# Altium integrated library Renesas Microcontroller H8S.IntLib: 670 symbols (part 19 of 70)
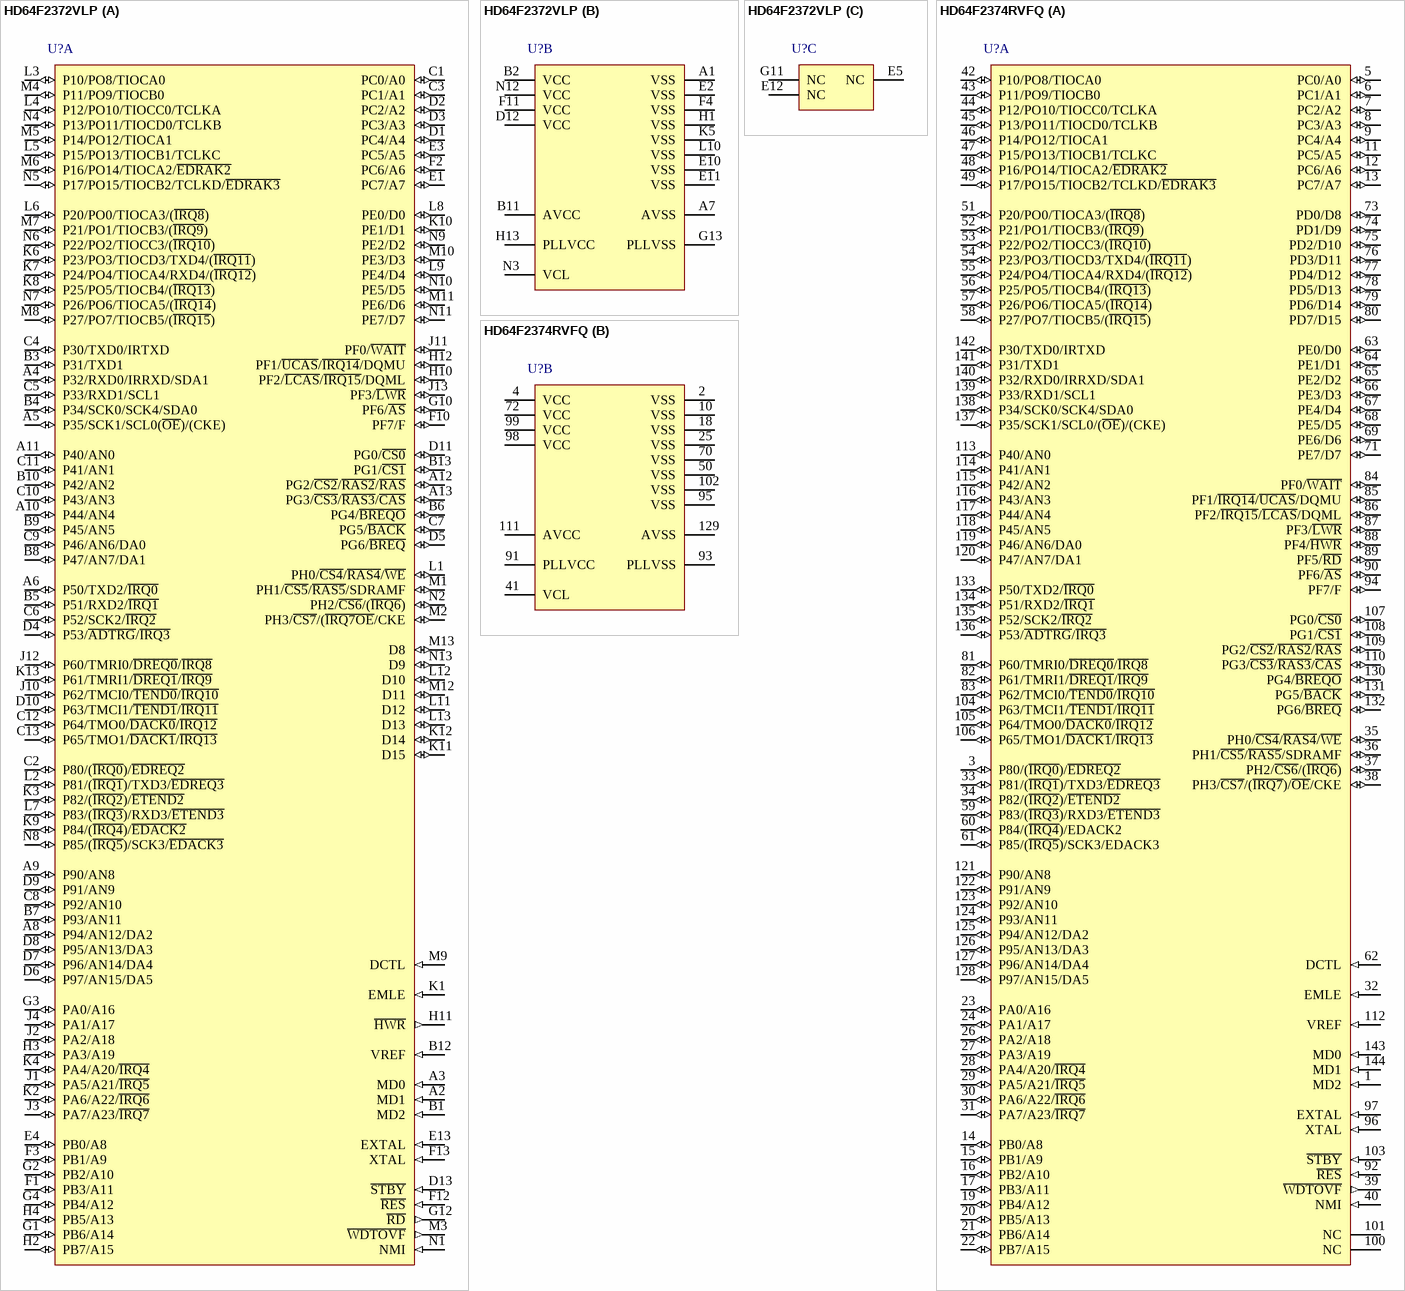
[diagram p254: symbols HD64F2372VLP to HD64F2374RVFQ]

## HD64F2372VLP
designator U?
Flash memory H8S/2300 Series, 2378 Group MCU, 256K ROM, 32K RAM, TLP-145V Pkg; Published: 28-Aug-2009; DatasheetVersion: Rev.7.00, Mar-2009; PackageVersion: Jun-2006; PackageReference: PTLG0145JB-A; Publisher: Altium Limited; PackageDescription: 145-Ball Plastic Thin Fine-Pitch BGA, 9 x 9 mm Body, 0.65 mm Pitch; Code_JEITA: P-TFLGA145-9x9-0.65; ComponentLink1Description: Manufacturer Link; ComponentLink1URL: http://sg.renesas.com/fmwk.jsp?cnt=h8s_family_landing.jsp&fp=/products/mpumcu/h8s_family/; ComponentLink2Description: Datasheet; ComponentLink2URL: http://documentation.renesas.com/eng/products/mpumcu/rej09b0109_h8s2378.pdf; ComponentLink3Description: Packaging Specification; ComponentLink3URL: http://sg.renesas.com/media/products/common_info/package/pdf/ic/code/ptlg0145jb_a.pdf
footprint PTLG0145JB-A (BGA, 145-Leads, Body 9x9mm, Pitch 0.65mm)
part A pins: A2 MD1 (in), A3 MD0 (in), A4 P32/RXD0/IRRXD/SDA1 (io), A5 P35/SCK1/SCL0(~{OE})/(CKE) (io), A6 P50/TXD2/~{IRQ0} (io), A8 P94/AN12/DA2 (io), A9 P90/AN8 (io), A10 P44/AN4 (io), A11 P40/AN0 (io), A12 PG2/~{CS2}/~{RAS2}/~{RAS} (io), A13 PG3/~{CS3}/~{RAS3}/~{CAS} (io), B1 MD2 (in), B3 P31/TXD1 (io), B4 P34/SCK0/SCK4/SDA0 (io), B5 P51/RXD2/~{IRQ1} (io), B6 PG4/~{BREQO} (io), B7 P93/AN11 (io), B8 P47/AN7/DA1 (io), B9 P45/AN5 (io), B10 P42/AN2 (io), B12 VREF (in), B13 PG1/~{CS1} (io), C1 PC0/A0 (io), C2 P80/(~{IRQ0})/~{EDREQ2} (io), C3 PC1/A1 (io), C4 P30/TXD0/IRTXD (io), C5 P33/RXD1/SCL1 (io), C6 P52/SCK2/~{IRQ2} (io), C7 PG5/~{BACK} (io), C8 P92/AN10 (io), C9 P46/AN6/DA0 (io), C10 P43/AN3 (io), C11 P41/AN1 (io), C12 P64/TMO0/~{DACK0}/~{IRQ12} (io), C13 P65/TMO1/~{DACK1}/~{IRQ13} (io), D1 PC4/A4 (io), D2 PC2/A2 (io), D3 PC3/A3 (io), D4 P53/~{ADTRG}/~{IRQ3} (io), D5 PG6/~{BREQ} (io), D6 P97/AN15/DA5 (io), D7 P96/AN14/DA4 (io), D8 P95/AN13/DA3 (io), D9 P91/AN9 (io), D10 P63/TMCI1/~{TEND1}/~{IRQ11} (io), D11 PG0/~{CS0} (io), D13 ~{STBY} (in), E1 PC7/A7 (io), E3 PC5/A5 (io), E4 PB0/A8 (io), E13 EXTAL (in), F1 PB3/A11 (io), F2 PC6/A6 (io), F3 PB1/A9 (io), F10 PF7/F (io), F12 ~{RES} (in), F13 XTAL (in), G1 PB6/A14 (io), G2 PB2/A10 (io), G3 PA0/A16 (io), G4 PB4/A12 (io), G10 PF6/~{AS} (io), G12 ~{RD} (out), H2 PB7/A15 (io), H3 PA3/A19 (io), H4 PB5/A13 (io), H10 PF2/~{LCAS}/~{IRQ15}/DQML (io), H11 ~{HWR} (out), H12 PF1/~{UCAS}/~{IRQ14}/DQMU (io), J1 PA5/A21/~{IRQ5} (io), J2 PA2/A18 (io), J3 PA7/A23/~{IRQ7} (io), J4 PA1/A17 (io), J10 P62/TMCI0/~{TEND0}/~{IRQ10} (io), J11 PF0/~{WAIT} (io), J12 P60/TMRI0/~{DREQ0}/~{IRQ8} (io), J13 PF3/~{LWR} (io), K1 EMLE (in), K2 PA6/A22/~{IRQ6} (io), K3 P82/(~{IRQ2})/~{ETEND2} (io), K4 PA4/A20/~{IRQ4} (io), K6 P23/PO3/TIOCD3/TXD4/(~{IRQ11}) (io), K7 P24/PO4/TIOCA4/RXD4/(~{IRQ12}) (io), K8 P25/PO5/TIOCB4/(~{IRQ13}) (io), K9 P84/(~{IRQ4})/~{EDACK2} (io), K10 PE1/D1 (io), K11 D15 (io), K12 D14 (io), K13 P61/TMRI1/~{DREQ1}/~{IRQ9} (io), L1 PH0/~{CS4}/~{RAS4}/~{WE} (io), L2 P81/(~{IRQ1})/TXD3/~{EDREQ3} (io), L3 P10/PO8/TIOCA0 (io), L4 P12/PO10/TIOCC0/TCLKA (io), L5 P15/PO13/TIOCB1/TCLKC (io), L6 P20/PO0/TIOCA3/(~{IRQ8}) (io), L7 P83/(~{IRQ3})/RXD3/~{ETEND3} (io), L8 PE0/D0 (io), L9 PE4/D4 (io), L11 D12 (io), L12 D10 (io), L13 D13 (io), M1 PH1/~{CS5}/~{RAS5}/SDRAMF (io), M2 PH3/~{CS7}/(~{IRQ7OE}/CKE (io), M3 ~{WDTOVF} (out), M4 P11/PO9/TIOCB0 (io), M5 P14/PO12/TIOCA1 (io), M6 P16/PO14/TIOCA2/~{EDRAK2} (io), M7 P21/PO1/TIOCB3/(~{IRQ9}) (io), M8 P27/PO7/TIOCB5/(~{IRQ15}) (io), M9 DCTL (in), M10 PE3/D3 (io), M11 PE6/D6 (io), M12 D11 (io), M13 D8 (io), N1 NMI (in), N2 PH2/~{CS6}/(~{IRQ6}) (io), N4 P13/PO11/TIOCD0/TCLKB (io), N5 P17/PO15/TIOCB2/TCLKD/~{EDRAK3} (io), N6 P22/PO2/TIOCC3/(~{IRQ10}) (io), N7 P26/PO6/TIOCA5/(~{IRQ14}) (io), N8 P85/(~{IRQ5})/SCK3/~{EDACK3} (io), N9 PE2/D2 (io), N10 PE5/D5 (io), N11 PE7/D7 (io), N13 D9 (io)
part B pins: A1 VSS (power), A7 AVSS (power), B2 VCC (power), B11 AVCC (power), D12 VCC (power), E2 VSS (power), E10 VSS (power), E11 VSS (power), F4 VSS (power), F11 VCC (power), G13 PLLVSS (power), H1 VSS (power), H13 PLLVCC (power), K5 VSS (power), L10 VSS (power), N3 VCL, N12 VCC (power)
part C pins: E5 NC, E12 NC, G11 NC

## HD64F2374RVFQ
designator U?
Flash memory H8S/2300 Series, 2378R Group MCU, 384K ROM, 32K RAM, FP-144H Pkg; Published: 28-Aug-2009; DatasheetVersion: Rev.7.00, Mar-2009; PackageVersion: Sep-2005; PackageReference: PLQP0144KC-A; Publisher: Altium Limited; PackageDescription: 144-Pin Plastic Low Profile QFP, 20 x 20 x 1.45 mm Body, 0.5 mm Pitch; Code_JEITA: P-LQFP144-20x20-0.50; Code_IPC: SQFP50P2200X2200-144; ComponentLink1Description: Manufacturer Link; ComponentLink1URL: http://sg.renesas.com/fmwk.jsp?cnt=h8s_family_landing.jsp&fp=/products/mpumcu/h8s_family/; ComponentLink2Description: Datasheet; ComponentLink2URL: http://documentation.renesas.com/eng/products/mpumcu/rej09b0109_h8s2378.pdf; ComponentLink3Description: Packaging Specification; ComponentLink3URL: http://sg.renesas.com/media/products/common_info/package/pdf/ic/code/plqp0144kc_a.pdf
footprint PLQP0144KC-A_N (Shrink QFP, 144-Leads, Body 20x20mm, Pitch 0.5mm, IPC Medium Density)
footprint PLQP0144KC-A_L (Shrink QFP, 144-Leads, Body 20x20mm, Pitch 0.5mm, IPC High Density)
footprint PLQP0144KC-A_M (Shrink QFP, 144-Leads, Body 20x20mm, Pitch 0.5mm, IPC Low Density)
part A pins: 1 MD2 (in), 3 P80/(~{IRQ0})/~{EDREQ2} (io), 5 PC0/A0 (io), 6 PC1/A1 (io), 7 PC2/A2 (io), 8 PC3/A3 (io), 9 PC4/A4 (io), 11 PC5/A5 (io), 12 PC6/A6 (io), 13 PC7/A7 (io), 14 PB0/A8 (io), 15 PB1/A9 (io), 16 PB2/A10 (io), 17 PB3/A11 (io), 19 PB4/A12 (io), 20 PB5/A13 (io), 21 PB6/A14 (io), 22 PB7/A15 (io), 23 PA0/A16 (io), 24 PA1/A17 (io), 26 PA2/A18 (io), 27 PA3/A19 (io), 28 PA4/A20/~{IRQ4} (io), 29 PA5/A21/~{IRQ5} (io), 30 PA6/A22/~{IRQ6} (io), 31 PA7/A23/~{IRQ7} (io), 32 EMLE (in), 33 P81/(~{IRQ1})/TXD3/~{EDREQ3} (io), 34 P82/(~{IRQ2})/~{ETEND2} (io), 35 PH0/~{CS4}/~{RAS4}/~{WE} (io), 36 PH1/~{CS5}/~{RAS5}/SDRAMF (io), 37 PH2/~{CS6}/(~{IRQ6}) (io), 38 PH3/~{CS7}/(~{IRQ7})/~{OE}/CKE (io), 39 ~{WDTOVF} (out), 40 NMI (in), 42 P10/PO8/TIOCA0 (io), 43 P11/PO9/TIOCB0 (io), 44 P12/PO10/TIOCC0/TCLKA (io), 45 P13/PO11/TIOCD0/TCLKB (io), 46 P14/PO12/TIOCA1 (io), 47 P15/PO13/TIOCB1/TCLKC (io), 48 P16/PO14/TIOCA2/~{EDRAK2} (io), 49 P17/PO15/TIOCB2/TCLKD/~{EDRAK3} (io), 51 P20/PO0/TIOCA3/(~{IRQ8}) (io), 52 P21/PO1/TIOCB3/(~{IRQ9}) (io), 53 P22/PO2/TIOCC3/(~{IRQ10}) (io), 54 P23/PO3/TIOCD3/TXD4/(~{IRQ11}) (io), 55 P24/PO4/TIOCA4/RXD4/(~{IRQ12}) (io), 56 P25/PO5/TIOCB4/(~{IRQ13}) (io), 57 P26/PO6/TIOCA5/(~{IRQ14}) (io), 58 P27/PO7/TIOCB5/(~{IRQ15}) (io), 59 P83/(~{IRQ3})/RXD3/~{ETEND3} (io), 60 P84/(~{IRQ4})/EDACK2 (io), 61 P85/(~{IRQ5})/SCK3/EDACK3 (io), 62 DCTL (in), 63 PE0/D0 (io), 64 PE1/D1 (io), 65 PE2/D2 (io), 66 PE3/D3 (io), 67 PE4/D4 (io), 68 PE5/D5 (io), 69 PE6/D6 (io), 71 PE7/D7 (io), 73 PD0/D8 (io), 74 PD1/D9 (io), 75 PD2/D10 (io), 76 PD3/D11 (io), 77 PD4/D12 (io), 78 PD5/D13 (io), 79 PD6/D14 (io), 80 PD7/D15 (io), 81 P60/TMRI0/~{DREQ0}/~{IRQ8} (io), 82 P61/TMRI1/~{DREQ1}/~{IRQ9} (io), 83 P62/TMCI0/~{TEND0}/~{IRQ10} (io), 84 PF0/~{WAIT} (io), 85 PF1/~{IRQ14}/~{UCAS}/DQMU (io), 86 PF2/~{IRQ15}/~{LCAS}/DQML (io), 87 PF3/~{LWR} (io), 88 PF4/~{HWR} (io), 89 PF5/~{RD} (io), 90 PF6/~{AS} (io), 92 ~{RES} (in), 94 PF7/F (io), 96 XTAL (in), 97 EXTAL (in), 100 NC, 101 NC, 103 ~{STBY} (in), 104 P63/TMCI1/~{TEND1}/~{IRQ11} (io), 105 P64/TMO0/~{DACK0}/~{IRQ12} (io), 106 P65/TMO1/~{DACK1}/~{IRQ13} (io), 107 PG0/~{CS0} (io), 108 PG1/~{CS1} (io), 109 PG2/~{CS2}/~{RAS2}/~{RAS} (io), 110 PG3/~{CS3}/~{RAS3}/~{CAS} (io), 112 VREF (in), 113 P40/AN0 (io), 114 P41/AN1 (io), 115 P42/AN2 (io), 116 P43/AN3 (io), 117 P44/AN4 (io), 118 P45/AN5 (io), 119 P46/AN6/DA0 (io), 120 P47/AN7/DA1 (io), 121 P90/AN8 (io), 122 P91/AN9 (io), 123 P92/AN10 (io), 124 P93/AN11 (io), 125 P94/AN12/DA2 (io), 126 P95/AN13/DA3 (io), 127 P96/AN14/DA4 (io), 128 P97/AN15/DA5 (io), 130 PG4/~{BREQO} (io), 131 PG5/~{BACK} (io), 132 PG6/~{BREQ} (io), 133 P50/TXD2/~{IRQ0} (io), 134 P51/RXD2/~{IRQ1} (io), 135 P52/SCK2/~{IRQ2} (io), 136 P53/~{ADTRG}/~{IRQ3} (io), 137 P35/SCK1/SCL0/(~{OE})/(CKE) (io), 138 P34/SCK0/SCK4/SDA0 (io), 139 P33/RXD1/SCL1 (io), 140 P32/RXD0/IRRXD/SDA1 (io), 141 P31/TXD1 (io), 142 P30/TXD0/IRTXD (io), 143 MD0 (in), 144 MD1 (in)
part B pins: 2 VSS (power), 4 VCC (power), 10 VSS (power), 18 VSS (power), 25 VSS (power), 41 VCL, 50 VSS (power), 70 VSS (power), 72 VCC (power), 91 PLLVCC (power), 93 PLLVSS (power), 95 VSS (power), 98 VCC (power), 99 VCC (power), 102 VSS (power), 111 AVCC (power), 129 AVSS (power)

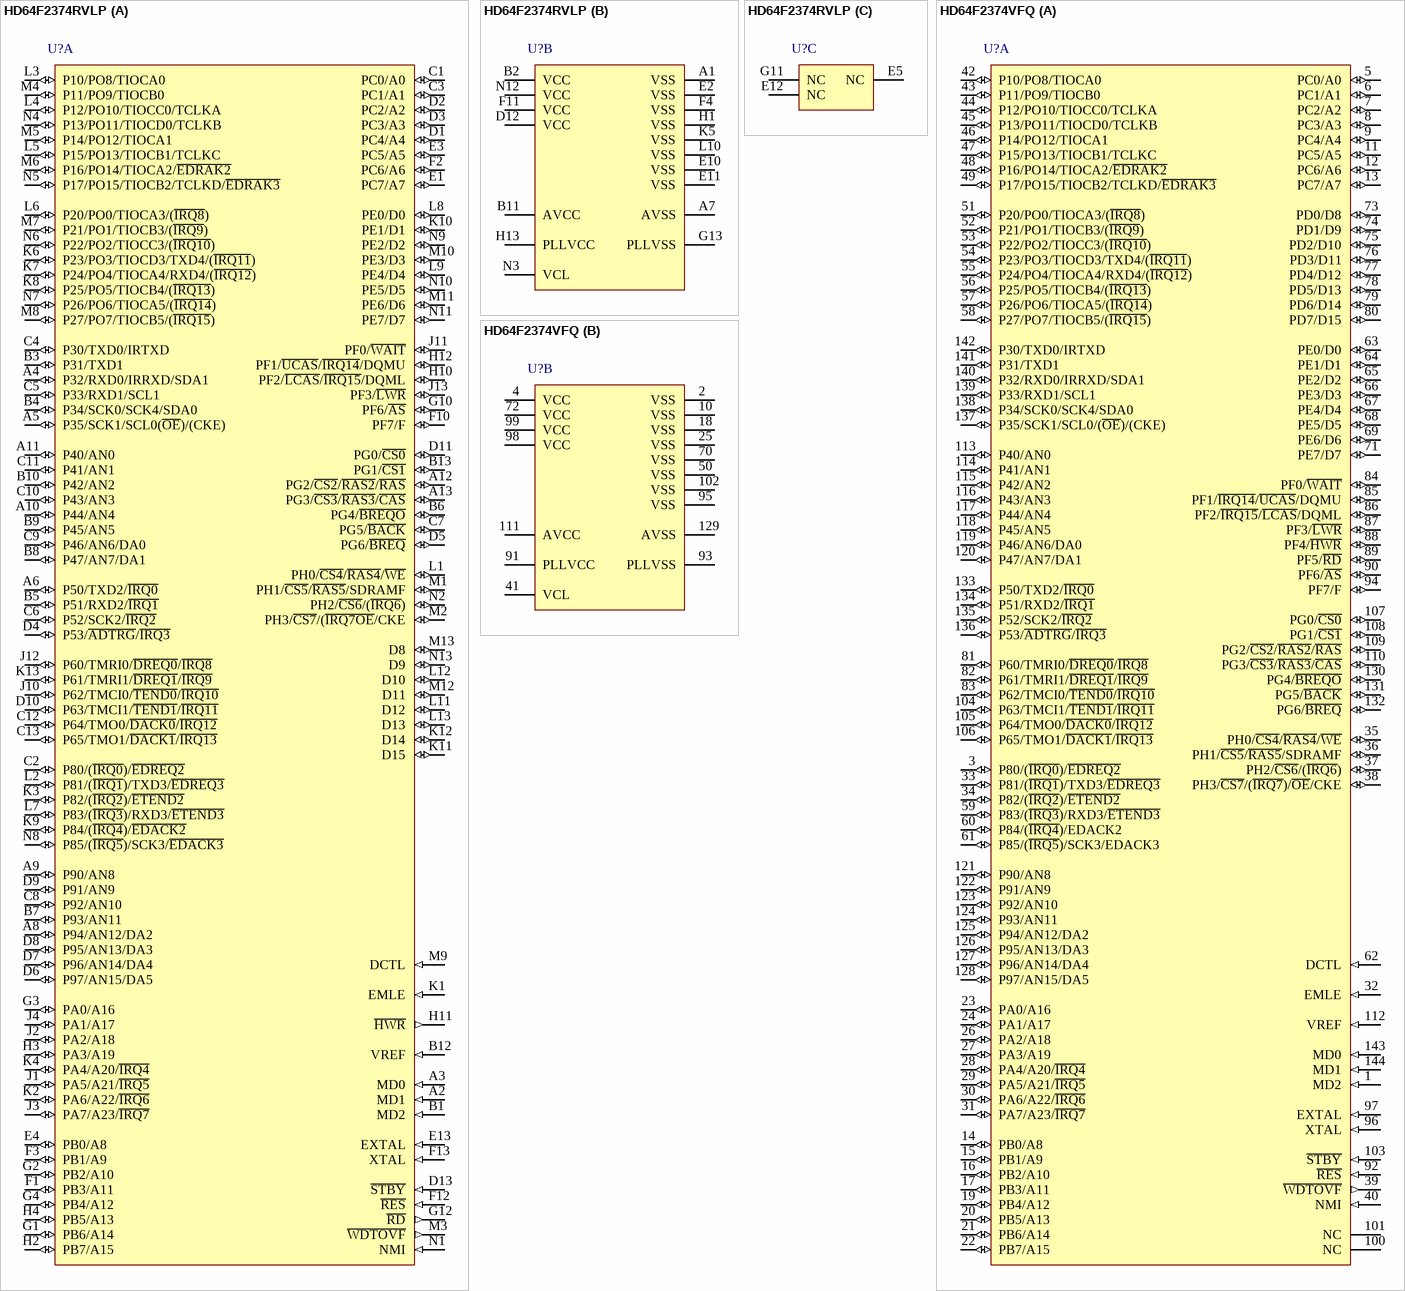
[diagram p65: symbols HD64F2374RVLP to HD64F2374VFQ]

## HD64F2374RVLP
designator U?
Flash memory H8S/2300 Series, 2378R Group MCU, 384K ROM, 32K RAM, TLP-145V Pkg; Published: 28-Aug-2009; DatasheetVersion: Rev.7.00, Mar-2009; PackageVersion: Jun-2006; PackageReference: PTLG0145JB-A; Publisher: Altium Limited; PackageDescription: 145-Ball Plastic Thin Fine-Pitch BGA, 9 x 9 mm Body, 0.65 mm Pitch; Code_JEITA: P-TFLGA145-9x9-0.65; ComponentLink1Description: Manufacturer Link; ComponentLink1URL: http://sg.renesas.com/fmwk.jsp?cnt=h8s_family_landing.jsp&fp=/products/mpumcu/h8s_family/; ComponentLink2Description: Datasheet; ComponentLink2URL: http://documentation.renesas.com/eng/products/mpumcu/rej09b0109_h8s2378.pdf; ComponentLink3Description: Packaging Specification; ComponentLink3URL: http://sg.renesas.com/media/products/common_info/package/pdf/ic/code/ptlg0145jb_a.pdf
footprint PTLG0145JB-A (BGA, 145-Leads, Body 9x9mm, Pitch 0.65mm)
part A pins: A2 MD1 (in), A3 MD0 (in), A4 P32/RXD0/IRRXD/SDA1 (io), A5 P35/SCK1/SCL0(~{OE})/(CKE) (io), A6 P50/TXD2/~{IRQ0} (io), A8 P94/AN12/DA2 (io), A9 P90/AN8 (io), A10 P44/AN4 (io), A11 P40/AN0 (io), A12 PG2/~{CS2}/~{RAS2}/~{RAS} (io), A13 PG3/~{CS3}/~{RAS3}/~{CAS} (io), B1 MD2 (in), B3 P31/TXD1 (io), B4 P34/SCK0/SCK4/SDA0 (io), B5 P51/RXD2/~{IRQ1} (io), B6 PG4/~{BREQO} (io), B7 P93/AN11 (io), B8 P47/AN7/DA1 (io), B9 P45/AN5 (io), B10 P42/AN2 (io), B12 VREF (in), B13 PG1/~{CS1} (io), C1 PC0/A0 (io), C2 P80/(~{IRQ0})/~{EDREQ2} (io), C3 PC1/A1 (io), C4 P30/TXD0/IRTXD (io), C5 P33/RXD1/SCL1 (io), C6 P52/SCK2/~{IRQ2} (io), C7 PG5/~{BACK} (io), C8 P92/AN10 (io), C9 P46/AN6/DA0 (io), C10 P43/AN3 (io), C11 P41/AN1 (io), C12 P64/TMO0/~{DACK0}/~{IRQ12} (io), C13 P65/TMO1/~{DACK1}/~{IRQ13} (io), D1 PC4/A4 (io), D2 PC2/A2 (io), D3 PC3/A3 (io), D4 P53/~{ADTRG}/~{IRQ3} (io), D5 PG6/~{BREQ} (io), D6 P97/AN15/DA5 (io), D7 P96/AN14/DA4 (io), D8 P95/AN13/DA3 (io), D9 P91/AN9 (io), D10 P63/TMCI1/~{TEND1}/~{IRQ11} (io), D11 PG0/~{CS0} (io), D13 ~{STBY} (in), E1 PC7/A7 (io), E3 PC5/A5 (io), E4 PB0/A8 (io), E13 EXTAL (in), F1 PB3/A11 (io), F2 PC6/A6 (io), F3 PB1/A9 (io), F10 PF7/F (io), F12 ~{RES} (in), F13 XTAL (in), G1 PB6/A14 (io), G2 PB2/A10 (io), G3 PA0/A16 (io), G4 PB4/A12 (io), G10 PF6/~{AS} (io), G12 ~{RD} (out), H2 PB7/A15 (io), H3 PA3/A19 (io), H4 PB5/A13 (io), H10 PF2/~{LCAS}/~{IRQ15}/DQML (io), H11 ~{HWR} (out), H12 PF1/~{UCAS}/~{IRQ14}/DQMU (io), J1 PA5/A21/~{IRQ5} (io), J2 PA2/A18 (io), J3 PA7/A23/~{IRQ7} (io), J4 PA1/A17 (io), J10 P62/TMCI0/~{TEND0}/~{IRQ10} (io), J11 PF0/~{WAIT} (io), J12 P60/TMRI0/~{DREQ0}/~{IRQ8} (io), J13 PF3/~{LWR} (io), K1 EMLE (in), K2 PA6/A22/~{IRQ6} (io), K3 P82/(~{IRQ2})/~{ETEND2} (io), K4 PA4/A20/~{IRQ4} (io), K6 P23/PO3/TIOCD3/TXD4/(~{IRQ11}) (io), K7 P24/PO4/TIOCA4/RXD4/(~{IRQ12}) (io), K8 P25/PO5/TIOCB4/(~{IRQ13}) (io), K9 P84/(~{IRQ4})/~{EDACK2} (io), K10 PE1/D1 (io), K11 D15 (io), K12 D14 (io), K13 P61/TMRI1/~{DREQ1}/~{IRQ9} (io), L1 PH0/~{CS4}/~{RAS4}/~{WE} (io), L2 P81/(~{IRQ1})/TXD3/~{EDREQ3} (io), L3 P10/PO8/TIOCA0 (io), L4 P12/PO10/TIOCC0/TCLKA (io), L5 P15/PO13/TIOCB1/TCLKC (io), L6 P20/PO0/TIOCA3/(~{IRQ8}) (io), L7 P83/(~{IRQ3})/RXD3/~{ETEND3} (io), L8 PE0/D0 (io), L9 PE4/D4 (io), L11 D12 (io), L12 D10 (io), L13 D13 (io), M1 PH1/~{CS5}/~{RAS5}/SDRAMF (io), M2 PH3/~{CS7}/(~{IRQ7OE}/CKE (io), M3 ~{WDTOVF} (out), M4 P11/PO9/TIOCB0 (io), M5 P14/PO12/TIOCA1 (io), M6 P16/PO14/TIOCA2/~{EDRAK2} (io), M7 P21/PO1/TIOCB3/(~{IRQ9}) (io), M8 P27/PO7/TIOCB5/(~{IRQ15}) (io), M9 DCTL (in), M10 PE3/D3 (io), M11 PE6/D6 (io), M12 D11 (io), M13 D8 (io), N1 NMI (in), N2 PH2/~{CS6}/(~{IRQ6}) (io), N4 P13/PO11/TIOCD0/TCLKB (io), N5 P17/PO15/TIOCB2/TCLKD/~{EDRAK3} (io), N6 P22/PO2/TIOCC3/(~{IRQ10}) (io), N7 P26/PO6/TIOCA5/(~{IRQ14}) (io), N8 P85/(~{IRQ5})/SCK3/~{EDACK3} (io), N9 PE2/D2 (io), N10 PE5/D5 (io), N11 PE7/D7 (io), N13 D9 (io)
part B pins: A1 VSS (power), A7 AVSS (power), B2 VCC (power), B11 AVCC (power), D12 VCC (power), E2 VSS (power), E10 VSS (power), E11 VSS (power), F4 VSS (power), F11 VCC (power), G13 PLLVSS (power), H1 VSS (power), H13 PLLVCC (power), K5 VSS (power), L10 VSS (power), N3 VCL, N12 VCC (power)
part C pins: E5 NC, E12 NC, G11 NC

## HD64F2374VFQ
designator U?
Flash memory H8S/2300 Series, 2378 Group MCU, 384K ROM, 32K RAM, FP-144H Pkg; Published: 28-Aug-2009; DatasheetVersion: Rev.7.00, Mar-2009; PackageVersion: Sep-2005; PackageReference: PLQP0144KC-A; Publisher: Altium Limited; PackageDescription: 144-Pin Plastic Low Profile QFP, 20 x 20 x 1.45 mm Body, 0.5 mm Pitch; Code_JEITA: P-LQFP144-20x20-0.50; Code_IPC: SQFP50P2200X2200-144; ComponentLink1Description: Manufacturer Link; ComponentLink1URL: http://sg.renesas.com/fmwk.jsp?cnt=h8s_family_landing.jsp&fp=/products/mpumcu/h8s_family/; ComponentLink2Description: Datasheet; ComponentLink2URL: http://documentation.renesas.com/eng/products/mpumcu/rej09b0109_h8s2378.pdf; ComponentLink3Description: Packaging Specification; ComponentLink3URL: http://sg.renesas.com/media/products/common_info/package/pdf/ic/code/plqp0144kc_a.pdf
footprint PLQP0144KC-A_N (Shrink QFP, 144-Leads, Body 20x20mm, Pitch 0.5mm, IPC Medium Density)
footprint PLQP0144KC-A_L (Shrink QFP, 144-Leads, Body 20x20mm, Pitch 0.5mm, IPC High Density)
footprint PLQP0144KC-A_M (Shrink QFP, 144-Leads, Body 20x20mm, Pitch 0.5mm, IPC Low Density)
part A pins: 1 MD2 (in), 3 P80/(~{IRQ0})/~{EDREQ2} (io), 5 PC0/A0 (io), 6 PC1/A1 (io), 7 PC2/A2 (io), 8 PC3/A3 (io), 9 PC4/A4 (io), 11 PC5/A5 (io), 12 PC6/A6 (io), 13 PC7/A7 (io), 14 PB0/A8 (io), 15 PB1/A9 (io), 16 PB2/A10 (io), 17 PB3/A11 (io), 19 PB4/A12 (io), 20 PB5/A13 (io), 21 PB6/A14 (io), 22 PB7/A15 (io), 23 PA0/A16 (io), 24 PA1/A17 (io), 26 PA2/A18 (io), 27 PA3/A19 (io), 28 PA4/A20/~{IRQ4} (io), 29 PA5/A21/~{IRQ5} (io), 30 PA6/A22/~{IRQ6} (io), 31 PA7/A23/~{IRQ7} (io), 32 EMLE (in), 33 P81/(~{IRQ1})/TXD3/~{EDREQ3} (io), 34 P82/(~{IRQ2})/~{ETEND2} (io), 35 PH0/~{CS4}/~{RAS4}/~{WE} (io), 36 PH1/~{CS5}/~{RAS5}/SDRAMF (io), 37 PH2/~{CS6}/(~{IRQ6}) (io), 38 PH3/~{CS7}/(~{IRQ7})/~{OE}/CKE (io), 39 ~{WDTOVF} (out), 40 NMI (in), 42 P10/PO8/TIOCA0 (io), 43 P11/PO9/TIOCB0 (io), 44 P12/PO10/TIOCC0/TCLKA (io), 45 P13/PO11/TIOCD0/TCLKB (io), 46 P14/PO12/TIOCA1 (io), 47 P15/PO13/TIOCB1/TCLKC (io), 48 P16/PO14/TIOCA2/~{EDRAK2} (io), 49 P17/PO15/TIOCB2/TCLKD/~{EDRAK3} (io), 51 P20/PO0/TIOCA3/(~{IRQ8}) (io), 52 P21/PO1/TIOCB3/(~{IRQ9}) (io), 53 P22/PO2/TIOCC3/(~{IRQ10}) (io), 54 P23/PO3/TIOCD3/TXD4/(~{IRQ11}) (io), 55 P24/PO4/TIOCA4/RXD4/(~{IRQ12}) (io), 56 P25/PO5/TIOCB4/(~{IRQ13}) (io), 57 P26/PO6/TIOCA5/(~{IRQ14}) (io), 58 P27/PO7/TIOCB5/(~{IRQ15}) (io), 59 P83/(~{IRQ3})/RXD3/~{ETEND3} (io), 60 P84/(~{IRQ4})/EDACK2 (io), 61 P85/(~{IRQ5})/SCK3/EDACK3 (io), 62 DCTL (in), 63 PE0/D0 (io), 64 PE1/D1 (io), 65 PE2/D2 (io), 66 PE3/D3 (io), 67 PE4/D4 (io), 68 PE5/D5 (io), 69 PE6/D6 (io), 71 PE7/D7 (io), 73 PD0/D8 (io), 74 PD1/D9 (io), 75 PD2/D10 (io), 76 PD3/D11 (io), 77 PD4/D12 (io), 78 PD5/D13 (io), 79 PD6/D14 (io), 80 PD7/D15 (io), 81 P60/TMRI0/~{DREQ0}/~{IRQ8} (io), 82 P61/TMRI1/~{DREQ1}/~{IRQ9} (io), 83 P62/TMCI0/~{TEND0}/~{IRQ10} (io), 84 PF0/~{WAIT} (io), 85 PF1/~{IRQ14}/~{UCAS}/DQMU (io), 86 PF2/~{IRQ15}/~{LCAS}/DQML (io), 87 PF3/~{LWR} (io), 88 PF4/~{HWR} (io), 89 PF5/~{RD} (io), 90 PF6/~{AS} (io), 92 ~{RES} (in), 94 PF7/F (io), 96 XTAL (in), 97 EXTAL (in), 100 NC, 101 NC, 103 ~{STBY} (in), 104 P63/TMCI1/~{TEND1}/~{IRQ11} (io), 105 P64/TMO0/~{DACK0}/~{IRQ12} (io), 106 P65/TMO1/~{DACK1}/~{IRQ13} (io), 107 PG0/~{CS0} (io), 108 PG1/~{CS1} (io), 109 PG2/~{CS2}/~{RAS2}/~{RAS} (io), 110 PG3/~{CS3}/~{RAS3}/~{CAS} (io), 112 VREF (in), 113 P40/AN0 (io), 114 P41/AN1 (io), 115 P42/AN2 (io), 116 P43/AN3 (io), 117 P44/AN4 (io), 118 P45/AN5 (io), 119 P46/AN6/DA0 (io), 120 P47/AN7/DA1 (io), 121 P90/AN8 (io), 122 P91/AN9 (io), 123 P92/AN10 (io), 124 P93/AN11 (io), 125 P94/AN12/DA2 (io), 126 P95/AN13/DA3 (io), 127 P96/AN14/DA4 (io), 128 P97/AN15/DA5 (io), 130 PG4/~{BREQO} (io), 131 PG5/~{BACK} (io), 132 PG6/~{BREQ} (io), 133 P50/TXD2/~{IRQ0} (io), 134 P51/RXD2/~{IRQ1} (io), 135 P52/SCK2/~{IRQ2} (io), 136 P53/~{ADTRG}/~{IRQ3} (io), 137 P35/SCK1/SCL0/(~{OE})/(CKE) (io), 138 P34/SCK0/SCK4/SDA0 (io), 139 P33/RXD1/SCL1 (io), 140 P32/RXD0/IRRXD/SDA1 (io), 141 P31/TXD1 (io), 142 P30/TXD0/IRTXD (io), 143 MD0 (in), 144 MD1 (in)
part B pins: 2 VSS (power), 4 VCC (power), 10 VSS (power), 18 VSS (power), 25 VSS (power), 41 VCL, 50 VSS (power), 70 VSS (power), 72 VCC (power), 91 PLLVCC (power), 93 PLLVSS (power), 95 VSS (power), 98 VCC (power), 99 VCC (power), 102 VSS (power), 111 AVCC (power), 129 AVSS (power)

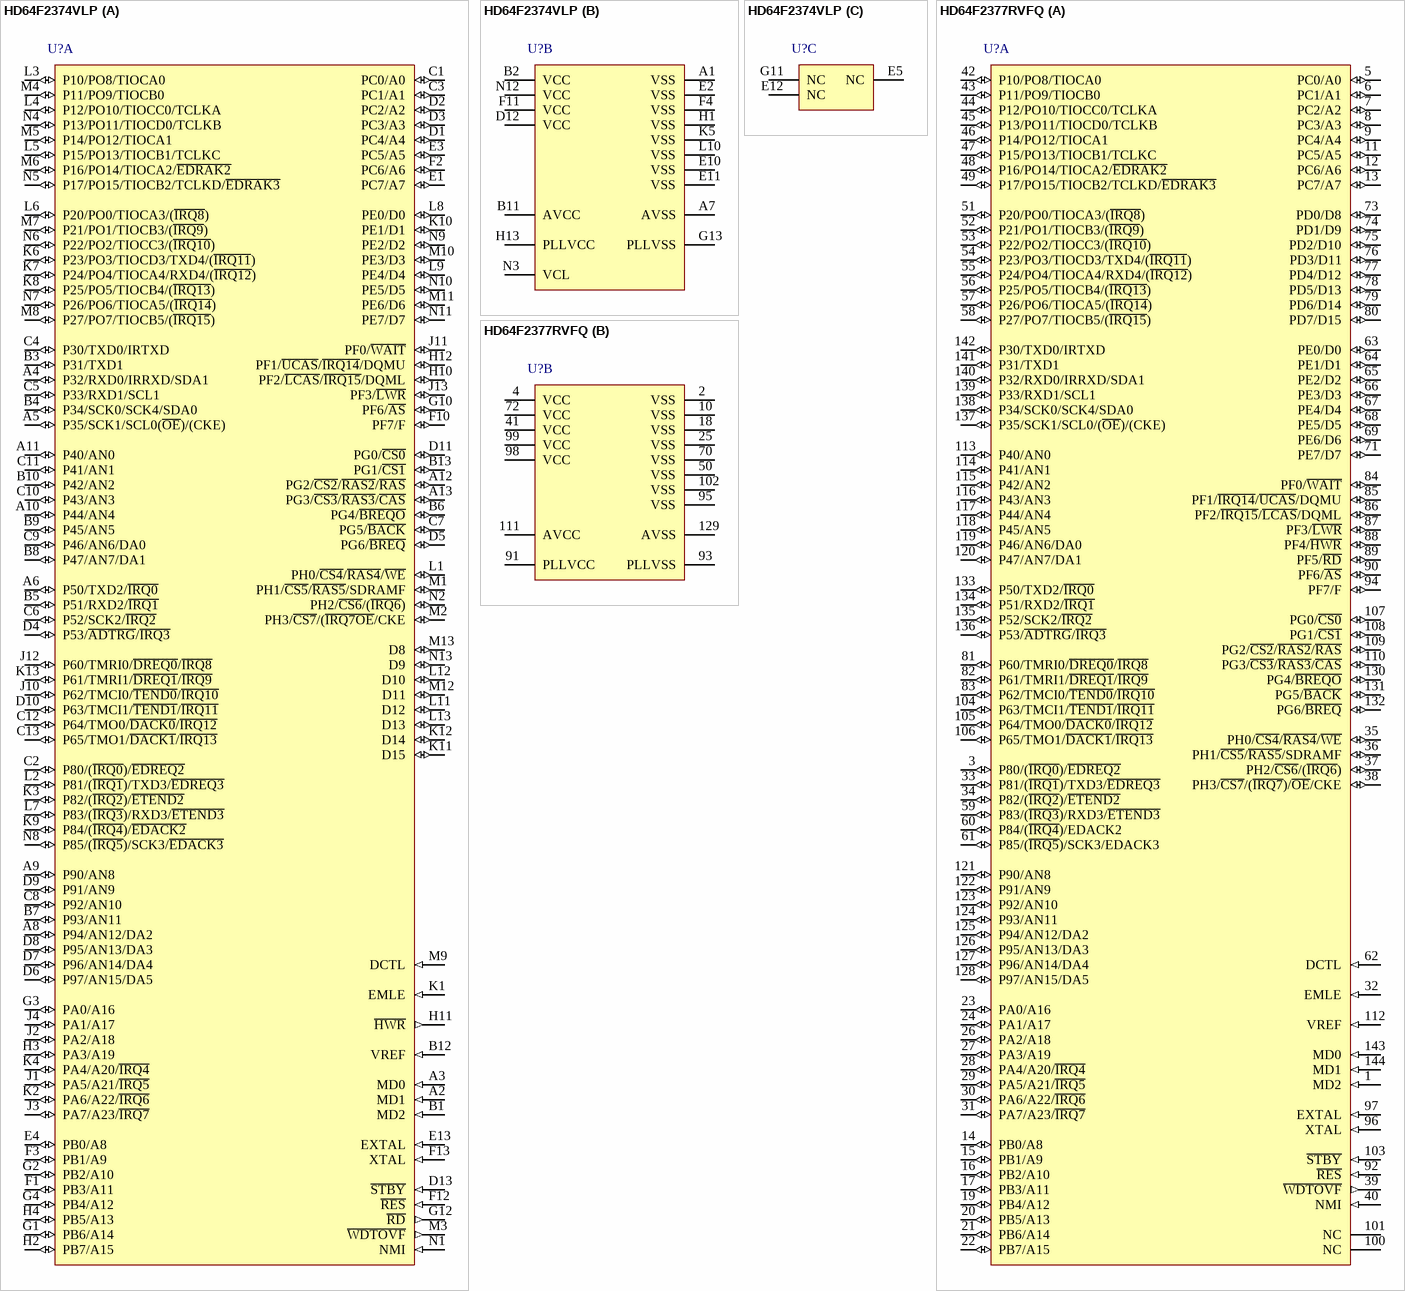
[diagram p66: symbols HD64F2374VLP to HD64F2377RVFQ]

## HD64F2374VLP
designator U?
Flash memory H8S/2300 Series, 2378 Group MCU, 384K ROM, 32K RAM, TLP-145V Pkg; Published: 28-Aug-2009; DatasheetVersion: Rev.7.00, Mar-2009; PackageVersion: Jun-2006; PackageReference: PTLG0145JB-A; Publisher: Altium Limited; PackageDescription: 145-Ball Plastic Thin Fine-Pitch BGA, 9 x 9 mm Body, 0.65 mm Pitch; Code_JEITA: P-TFLGA145-9x9-0.65; ComponentLink1Description: Manufacturer Link; ComponentLink1URL: http://sg.renesas.com/fmwk.jsp?cnt=h8s_family_landing.jsp&fp=/products/mpumcu/h8s_family/; ComponentLink2Description: Datasheet; ComponentLink2URL: http://documentation.renesas.com/eng/products/mpumcu/rej09b0109_h8s2378.pdf; ComponentLink3Description: Packaging Specification; ComponentLink3URL: http://sg.renesas.com/media/products/common_info/package/pdf/ic/code/ptlg0145jb_a.pdf
footprint PTLG0145JB-A (BGA, 145-Leads, Body 9x9mm, Pitch 0.65mm)
part A pins: A2 MD1 (in), A3 MD0 (in), A4 P32/RXD0/IRRXD/SDA1 (io), A5 P35/SCK1/SCL0(~{OE})/(CKE) (io), A6 P50/TXD2/~{IRQ0} (io), A8 P94/AN12/DA2 (io), A9 P90/AN8 (io), A10 P44/AN4 (io), A11 P40/AN0 (io), A12 PG2/~{CS2}/~{RAS2}/~{RAS} (io), A13 PG3/~{CS3}/~{RAS3}/~{CAS} (io), B1 MD2 (in), B3 P31/TXD1 (io), B4 P34/SCK0/SCK4/SDA0 (io), B5 P51/RXD2/~{IRQ1} (io), B6 PG4/~{BREQO} (io), B7 P93/AN11 (io), B8 P47/AN7/DA1 (io), B9 P45/AN5 (io), B10 P42/AN2 (io), B12 VREF (in), B13 PG1/~{CS1} (io), C1 PC0/A0 (io), C2 P80/(~{IRQ0})/~{EDREQ2} (io), C3 PC1/A1 (io), C4 P30/TXD0/IRTXD (io), C5 P33/RXD1/SCL1 (io), C6 P52/SCK2/~{IRQ2} (io), C7 PG5/~{BACK} (io), C8 P92/AN10 (io), C9 P46/AN6/DA0 (io), C10 P43/AN3 (io), C11 P41/AN1 (io), C12 P64/TMO0/~{DACK0}/~{IRQ12} (io), C13 P65/TMO1/~{DACK1}/~{IRQ13} (io), D1 PC4/A4 (io), D2 PC2/A2 (io), D3 PC3/A3 (io), D4 P53/~{ADTRG}/~{IRQ3} (io), D5 PG6/~{BREQ} (io), D6 P97/AN15/DA5 (io), D7 P96/AN14/DA4 (io), D8 P95/AN13/DA3 (io), D9 P91/AN9 (io), D10 P63/TMCI1/~{TEND1}/~{IRQ11} (io), D11 PG0/~{CS0} (io), D13 ~{STBY} (in), E1 PC7/A7 (io), E3 PC5/A5 (io), E4 PB0/A8 (io), E13 EXTAL (in), F1 PB3/A11 (io), F2 PC6/A6 (io), F3 PB1/A9 (io), F10 PF7/F (io), F12 ~{RES} (in), F13 XTAL (in), G1 PB6/A14 (io), G2 PB2/A10 (io), G3 PA0/A16 (io), G4 PB4/A12 (io), G10 PF6/~{AS} (io), G12 ~{RD} (out), H2 PB7/A15 (io), H3 PA3/A19 (io), H4 PB5/A13 (io), H10 PF2/~{LCAS}/~{IRQ15}/DQML (io), H11 ~{HWR} (out), H12 PF1/~{UCAS}/~{IRQ14}/DQMU (io), J1 PA5/A21/~{IRQ5} (io), J2 PA2/A18 (io), J3 PA7/A23/~{IRQ7} (io), J4 PA1/A17 (io), J10 P62/TMCI0/~{TEND0}/~{IRQ10} (io), J11 PF0/~{WAIT} (io), J12 P60/TMRI0/~{DREQ0}/~{IRQ8} (io), J13 PF3/~{LWR} (io), K1 EMLE (in), K2 PA6/A22/~{IRQ6} (io), K3 P82/(~{IRQ2})/~{ETEND2} (io), K4 PA4/A20/~{IRQ4} (io), K6 P23/PO3/TIOCD3/TXD4/(~{IRQ11}) (io), K7 P24/PO4/TIOCA4/RXD4/(~{IRQ12}) (io), K8 P25/PO5/TIOCB4/(~{IRQ13}) (io), K9 P84/(~{IRQ4})/~{EDACK2} (io), K10 PE1/D1 (io), K11 D15 (io), K12 D14 (io), K13 P61/TMRI1/~{DREQ1}/~{IRQ9} (io), L1 PH0/~{CS4}/~{RAS4}/~{WE} (io), L2 P81/(~{IRQ1})/TXD3/~{EDREQ3} (io), L3 P10/PO8/TIOCA0 (io), L4 P12/PO10/TIOCC0/TCLKA (io), L5 P15/PO13/TIOCB1/TCLKC (io), L6 P20/PO0/TIOCA3/(~{IRQ8}) (io), L7 P83/(~{IRQ3})/RXD3/~{ETEND3} (io), L8 PE0/D0 (io), L9 PE4/D4 (io), L11 D12 (io), L12 D10 (io), L13 D13 (io), M1 PH1/~{CS5}/~{RAS5}/SDRAMF (io), M2 PH3/~{CS7}/(~{IRQ7OE}/CKE (io), M3 ~{WDTOVF} (out), M4 P11/PO9/TIOCB0 (io), M5 P14/PO12/TIOCA1 (io), M6 P16/PO14/TIOCA2/~{EDRAK2} (io), M7 P21/PO1/TIOCB3/(~{IRQ9}) (io), M8 P27/PO7/TIOCB5/(~{IRQ15}) (io), M9 DCTL (in), M10 PE3/D3 (io), M11 PE6/D6 (io), M12 D11 (io), M13 D8 (io), N1 NMI (in), N2 PH2/~{CS6}/(~{IRQ6}) (io), N4 P13/PO11/TIOCD0/TCLKB (io), N5 P17/PO15/TIOCB2/TCLKD/~{EDRAK3} (io), N6 P22/PO2/TIOCC3/(~{IRQ10}) (io), N7 P26/PO6/TIOCA5/(~{IRQ14}) (io), N8 P85/(~{IRQ5})/SCK3/~{EDACK3} (io), N9 PE2/D2 (io), N10 PE5/D5 (io), N11 PE7/D7 (io), N13 D9 (io)
part B pins: A1 VSS (power), A7 AVSS (power), B2 VCC (power), B11 AVCC (power), D12 VCC (power), E2 VSS (power), E10 VSS (power), E11 VSS (power), F4 VSS (power), F11 VCC (power), G13 PLLVSS (power), H1 VSS (power), H13 PLLVCC (power), K5 VSS (power), L10 VSS (power), N3 VCL, N12 VCC (power)
part C pins: E5 NC, E12 NC, G11 NC

## HD64F2377RVFQ
designator U?
Flash memory H8S/2300 Series, 2378R Group MCU, 384K ROM, 24K RAM, FP-144H Pkg; Published: 28-Aug-2009; DatasheetVersion: Rev.7.00, Mar-2009; PackageVersion: Sep-2005; PackageReference: PLQP0144KC-A; Publisher: Altium Limited; PackageDescription: 144-Pin Plastic Low Profile QFP, 20 x 20 x 1.45 mm Body, 0.5 mm Pitch; Code_JEITA: P-LQFP144-20x20-0.50; Code_IPC: SQFP50P2200X2200-144; ComponentLink1Description: Manufacturer Link; ComponentLink1URL: http://sg.renesas.com/fmwk.jsp?cnt=h8s_family_landing.jsp&fp=/products/mpumcu/h8s_family/; ComponentLink2Description: Datasheet; ComponentLink2URL: http://documentation.renesas.com/eng/products/mpumcu/rej09b0109_h8s2378.pdf; ComponentLink3Description: Packaging Specification; ComponentLink3URL: http://sg.renesas.com/media/products/common_info/package/pdf/ic/code/plqp0144kc_a.pdf
footprint PLQP0144KC-A_N (Shrink QFP, 144-Leads, Body 20x20mm, Pitch 0.5mm, IPC Medium Density)
footprint PLQP0144KC-A_L (Shrink QFP, 144-Leads, Body 20x20mm, Pitch 0.5mm, IPC High Density)
footprint PLQP0144KC-A_M (Shrink QFP, 144-Leads, Body 20x20mm, Pitch 0.5mm, IPC Low Density)
part A pins: 1 MD2 (in), 3 P80/(~{IRQ0})/~{EDREQ2} (io), 5 PC0/A0 (io), 6 PC1/A1 (io), 7 PC2/A2 (io), 8 PC3/A3 (io), 9 PC4/A4 (io), 11 PC5/A5 (io), 12 PC6/A6 (io), 13 PC7/A7 (io), 14 PB0/A8 (io), 15 PB1/A9 (io), 16 PB2/A10 (io), 17 PB3/A11 (io), 19 PB4/A12 (io), 20 PB5/A13 (io), 21 PB6/A14 (io), 22 PB7/A15 (io), 23 PA0/A16 (io), 24 PA1/A17 (io), 26 PA2/A18 (io), 27 PA3/A19 (io), 28 PA4/A20/~{IRQ4} (io), 29 PA5/A21/~{IRQ5} (io), 30 PA6/A22/~{IRQ6} (io), 31 PA7/A23/~{IRQ7} (io), 32 EMLE (in), 33 P81/(~{IRQ1})/TXD3/~{EDREQ3} (io), 34 P82/(~{IRQ2})/~{ETEND2} (io), 35 PH0/~{CS4}/~{RAS4}/~{WE} (io), 36 PH1/~{CS5}/~{RAS5}/SDRAMF (io), 37 PH2/~{CS6}/(~{IRQ6}) (io), 38 PH3/~{CS7}/(~{IRQ7})/~{OE}/CKE (io), 39 ~{WDTOVF} (out), 40 NMI (in), 42 P10/PO8/TIOCA0 (io), 43 P11/PO9/TIOCB0 (io), 44 P12/PO10/TIOCC0/TCLKA (io), 45 P13/PO11/TIOCD0/TCLKB (io), 46 P14/PO12/TIOCA1 (io), 47 P15/PO13/TIOCB1/TCLKC (io), 48 P16/PO14/TIOCA2/~{EDRAK2} (io), 49 P17/PO15/TIOCB2/TCLKD/~{EDRAK3} (io), 51 P20/PO0/TIOCA3/(~{IRQ8}) (io), 52 P21/PO1/TIOCB3/(~{IRQ9}) (io), 53 P22/PO2/TIOCC3/(~{IRQ10}) (io), 54 P23/PO3/TIOCD3/TXD4/(~{IRQ11}) (io), 55 P24/PO4/TIOCA4/RXD4/(~{IRQ12}) (io), 56 P25/PO5/TIOCB4/(~{IRQ13}) (io), 57 P26/PO6/TIOCA5/(~{IRQ14}) (io), 58 P27/PO7/TIOCB5/(~{IRQ15}) (io), 59 P83/(~{IRQ3})/RXD3/~{ETEND3} (io), 60 P84/(~{IRQ4})/EDACK2 (io), 61 P85/(~{IRQ5})/SCK3/EDACK3 (io), 62 DCTL (in), 63 PE0/D0 (io), 64 PE1/D1 (io), 65 PE2/D2 (io), 66 PE3/D3 (io), 67 PE4/D4 (io), 68 PE5/D5 (io), 69 PE6/D6 (io), 71 PE7/D7 (io), 73 PD0/D8 (io), 74 PD1/D9 (io), 75 PD2/D10 (io), 76 PD3/D11 (io), 77 PD4/D12 (io), 78 PD5/D13 (io), 79 PD6/D14 (io), 80 PD7/D15 (io), 81 P60/TMRI0/~{DREQ0}/~{IRQ8} (io), 82 P61/TMRI1/~{DREQ1}/~{IRQ9} (io), 83 P62/TMCI0/~{TEND0}/~{IRQ10} (io), 84 PF0/~{WAIT} (io), 85 PF1/~{IRQ14}/~{UCAS}/DQMU (io), 86 PF2/~{IRQ15}/~{LCAS}/DQML (io), 87 PF3/~{LWR} (io), 88 PF4/~{HWR} (io), 89 PF5/~{RD} (io), 90 PF6/~{AS} (io), 92 ~{RES} (in), 94 PF7/F (io), 96 XTAL (in), 97 EXTAL (in), 100 NC, 101 NC, 103 ~{STBY} (in), 104 P63/TMCI1/~{TEND1}/~{IRQ11} (io), 105 P64/TMO0/~{DACK0}/~{IRQ12} (io), 106 P65/TMO1/~{DACK1}/~{IRQ13} (io), 107 PG0/~{CS0} (io), 108 PG1/~{CS1} (io), 109 PG2/~{CS2}/~{RAS2}/~{RAS} (io), 110 PG3/~{CS3}/~{RAS3}/~{CAS} (io), 112 VREF (in), 113 P40/AN0 (io), 114 P41/AN1 (io), 115 P42/AN2 (io), 116 P43/AN3 (io), 117 P44/AN4 (io), 118 P45/AN5 (io), 119 P46/AN6/DA0 (io), 120 P47/AN7/DA1 (io), 121 P90/AN8 (io), 122 P91/AN9 (io), 123 P92/AN10 (io), 124 P93/AN11 (io), 125 P94/AN12/DA2 (io), 126 P95/AN13/DA3 (io), 127 P96/AN14/DA4 (io), 128 P97/AN15/DA5 (io), 130 PG4/~{BREQO} (io), 131 PG5/~{BACK} (io), 132 PG6/~{BREQ} (io), 133 P50/TXD2/~{IRQ0} (io), 134 P51/RXD2/~{IRQ1} (io), 135 P52/SCK2/~{IRQ2} (io), 136 P53/~{ADTRG}/~{IRQ3} (io), 137 P35/SCK1/SCL0/(~{OE})/(CKE) (io), 138 P34/SCK0/SCK4/SDA0 (io), 139 P33/RXD1/SCL1 (io), 140 P32/RXD0/IRRXD/SDA1 (io), 141 P31/TXD1 (io), 142 P30/TXD0/IRTXD (io), 143 MD0 (in), 144 MD1 (in)
part B pins: 2 VSS (power), 4 VCC (power), 10 VSS (power), 18 VSS (power), 25 VSS (power), 41 VCC (power), 50 VSS (power), 70 VSS (power), 72 VCC (power), 91 PLLVCC (power), 93 PLLVSS (power), 95 VSS (power), 98 VCC (power), 99 VCC (power), 102 VSS (power), 111 AVCC (power), 129 AVSS (power)

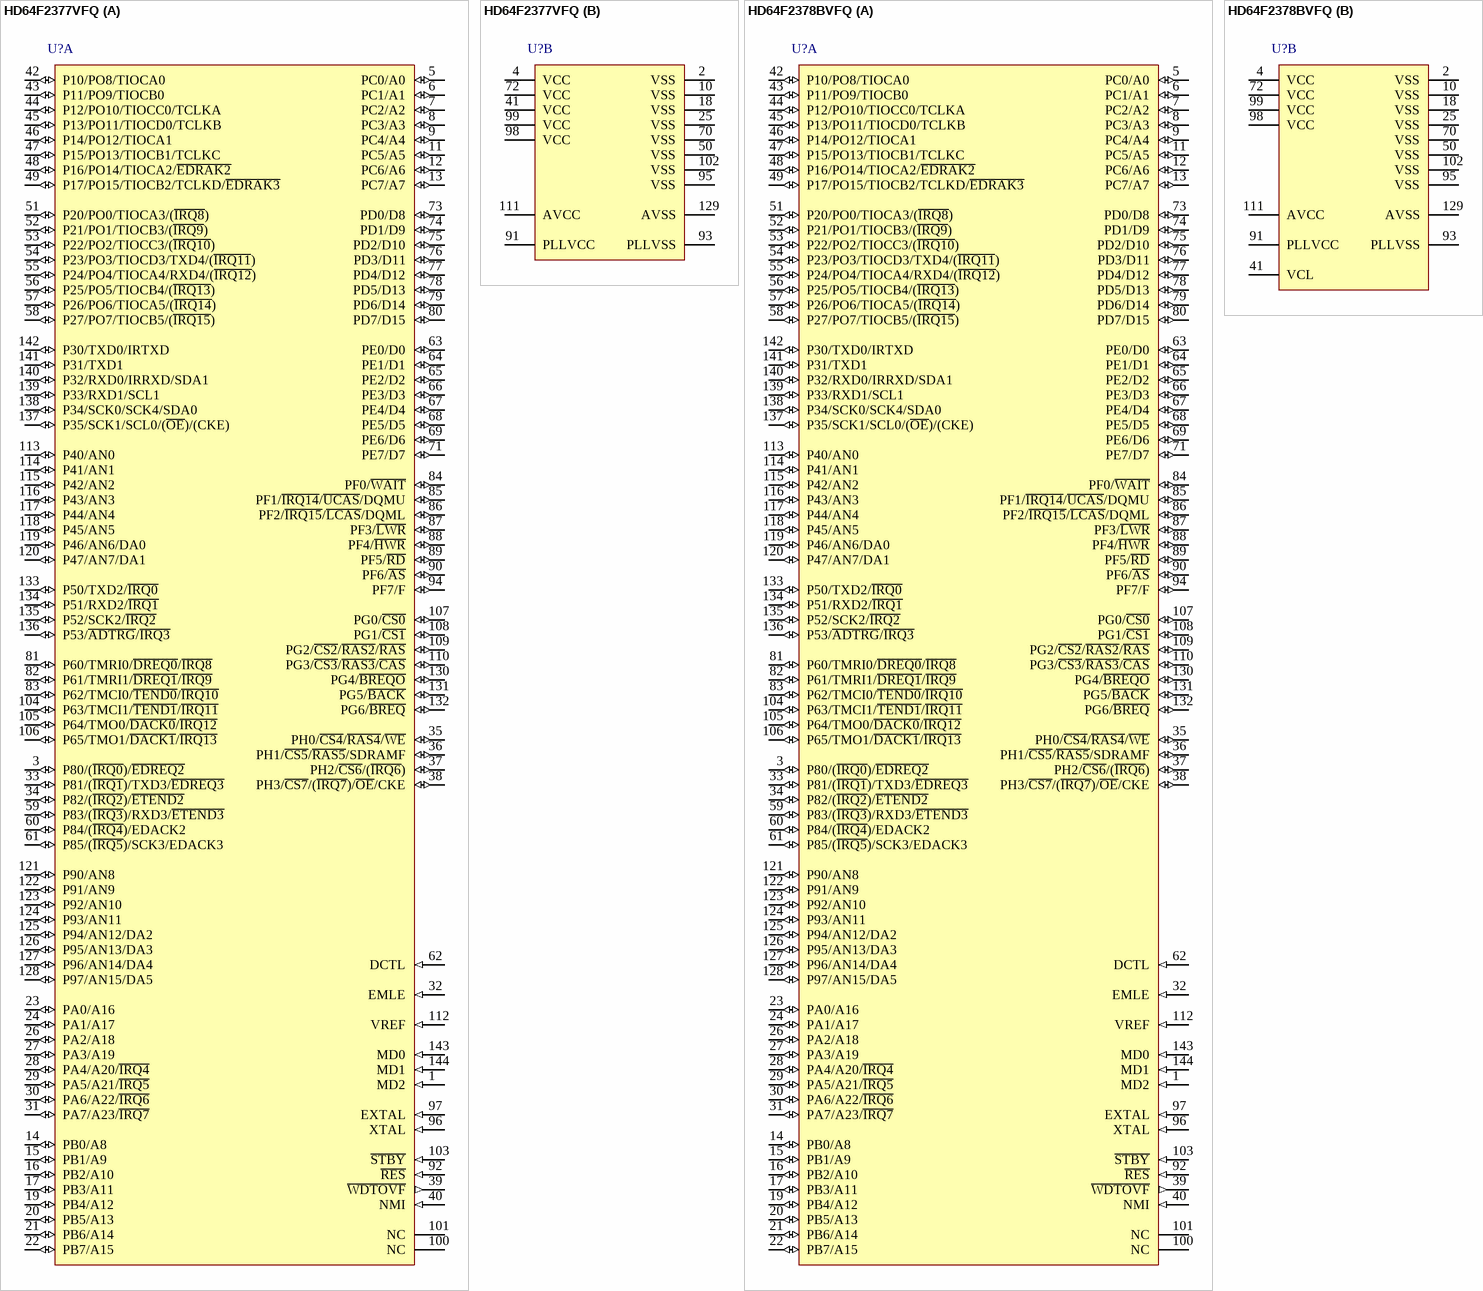
[diagram p67: symbols HD64F2377VFQ to HD64F2378BVFQ]

## HD64F2377VFQ
designator U?
Flash memory H8S/2300 Series, 2378 Group MCU, 384K ROM, 24K RAM, FP-144H Pkg; Published: 28-Aug-2009; DatasheetVersion: Rev.7.00, Mar-2009; PackageVersion: Sep-2005; PackageReference: PLQP0144KC-A; Publisher: Altium Limited; PackageDescription: 144-Pin Plastic Low Profile QFP, 20 x 20 x 1.45 mm Body, 0.5 mm Pitch; Code_JEITA: P-LQFP144-20x20-0.50; Code_IPC: SQFP50P2200X2200-144; ComponentLink1Description: Manufacturer Link; ComponentLink1URL: http://sg.renesas.com/fmwk.jsp?cnt=h8s_family_landing.jsp&fp=/products/mpumcu/h8s_family/; ComponentLink2Description: Datasheet; ComponentLink2URL: http://documentation.renesas.com/eng/products/mpumcu/rej09b0109_h8s2378.pdf; ComponentLink3Description: Packaging Specification; ComponentLink3URL: http://sg.renesas.com/media/products/common_info/package/pdf/ic/code/plqp0144kc_a.pdf
footprint PLQP0144KC-A_N (Shrink QFP, 144-Leads, Body 20x20mm, Pitch 0.5mm, IPC Medium Density)
footprint PLQP0144KC-A_L (Shrink QFP, 144-Leads, Body 20x20mm, Pitch 0.5mm, IPC High Density)
footprint PLQP0144KC-A_M (Shrink QFP, 144-Leads, Body 20x20mm, Pitch 0.5mm, IPC Low Density)
part A pins: 1 MD2 (in), 3 P80/(~{IRQ0})/~{EDREQ2} (io), 5 PC0/A0 (io), 6 PC1/A1 (io), 7 PC2/A2 (io), 8 PC3/A3 (io), 9 PC4/A4 (io), 11 PC5/A5 (io), 12 PC6/A6 (io), 13 PC7/A7 (io), 14 PB0/A8 (io), 15 PB1/A9 (io), 16 PB2/A10 (io), 17 PB3/A11 (io), 19 PB4/A12 (io), 20 PB5/A13 (io), 21 PB6/A14 (io), 22 PB7/A15 (io), 23 PA0/A16 (io), 24 PA1/A17 (io), 26 PA2/A18 (io), 27 PA3/A19 (io), 28 PA4/A20/~{IRQ4} (io), 29 PA5/A21/~{IRQ5} (io), 30 PA6/A22/~{IRQ6} (io), 31 PA7/A23/~{IRQ7} (io), 32 EMLE (in), 33 P81/(~{IRQ1})/TXD3/~{EDREQ3} (io), 34 P82/(~{IRQ2})/~{ETEND2} (io), 35 PH0/~{CS4}/~{RAS4}/~{WE} (io), 36 PH1/~{CS5}/~{RAS5}/SDRAMF (io), 37 PH2/~{CS6}/(~{IRQ6}) (io), 38 PH3/~{CS7}/(~{IRQ7})/~{OE}/CKE (io), 39 ~{WDTOVF} (out), 40 NMI (in), 42 P10/PO8/TIOCA0 (io), 43 P11/PO9/TIOCB0 (io), 44 P12/PO10/TIOCC0/TCLKA (io), 45 P13/PO11/TIOCD0/TCLKB (io), 46 P14/PO12/TIOCA1 (io), 47 P15/PO13/TIOCB1/TCLKC (io), 48 P16/PO14/TIOCA2/~{EDRAK2} (io), 49 P17/PO15/TIOCB2/TCLKD/~{EDRAK3} (io), 51 P20/PO0/TIOCA3/(~{IRQ8}) (io), 52 P21/PO1/TIOCB3/(~{IRQ9}) (io), 53 P22/PO2/TIOCC3/(~{IRQ10}) (io), 54 P23/PO3/TIOCD3/TXD4/(~{IRQ11}) (io), 55 P24/PO4/TIOCA4/RXD4/(~{IRQ12}) (io), 56 P25/PO5/TIOCB4/(~{IRQ13}) (io), 57 P26/PO6/TIOCA5/(~{IRQ14}) (io), 58 P27/PO7/TIOCB5/(~{IRQ15}) (io), 59 P83/(~{IRQ3})/RXD3/~{ETEND3} (io), 60 P84/(~{IRQ4})/EDACK2 (io), 61 P85/(~{IRQ5})/SCK3/EDACK3 (io), 62 DCTL (in), 63 PE0/D0 (io), 64 PE1/D1 (io), 65 PE2/D2 (io), 66 PE3/D3 (io), 67 PE4/D4 (io), 68 PE5/D5 (io), 69 PE6/D6 (io), 71 PE7/D7 (io), 73 PD0/D8 (io), 74 PD1/D9 (io), 75 PD2/D10 (io), 76 PD3/D11 (io), 77 PD4/D12 (io), 78 PD5/D13 (io), 79 PD6/D14 (io), 80 PD7/D15 (io), 81 P60/TMRI0/~{DREQ0}/~{IRQ8} (io), 82 P61/TMRI1/~{DREQ1}/~{IRQ9} (io), 83 P62/TMCI0/~{TEND0}/~{IRQ10} (io), 84 PF0/~{WAIT} (io), 85 PF1/~{IRQ14}/~{UCAS}/DQMU (io), 86 PF2/~{IRQ15}/~{LCAS}/DQML (io), 87 PF3/~{LWR} (io), 88 PF4/~{HWR} (io), 89 PF5/~{RD} (io), 90 PF6/~{AS} (io), 92 ~{RES} (in), 94 PF7/F (io), 96 XTAL (in), 97 EXTAL (in), 100 NC, 101 NC, 103 ~{STBY} (in), 104 P63/TMCI1/~{TEND1}/~{IRQ11} (io), 105 P64/TMO0/~{DACK0}/~{IRQ12} (io), 106 P65/TMO1/~{DACK1}/~{IRQ13} (io), 107 PG0/~{CS0} (io), 108 PG1/~{CS1} (io), 109 PG2/~{CS2}/~{RAS2}/~{RAS} (io), 110 PG3/~{CS3}/~{RAS3}/~{CAS} (io), 112 VREF (in), 113 P40/AN0 (io), 114 P41/AN1 (io), 115 P42/AN2 (io), 116 P43/AN3 (io), 117 P44/AN4 (io), 118 P45/AN5 (io), 119 P46/AN6/DA0 (io), 120 P47/AN7/DA1 (io), 121 P90/AN8 (io), 122 P91/AN9 (io), 123 P92/AN10 (io), 124 P93/AN11 (io), 125 P94/AN12/DA2 (io), 126 P95/AN13/DA3 (io), 127 P96/AN14/DA4 (io), 128 P97/AN15/DA5 (io), 130 PG4/~{BREQO} (io), 131 PG5/~{BACK} (io), 132 PG6/~{BREQ} (io), 133 P50/TXD2/~{IRQ0} (io), 134 P51/RXD2/~{IRQ1} (io), 135 P52/SCK2/~{IRQ2} (io), 136 P53/~{ADTRG}/~{IRQ3} (io), 137 P35/SCK1/SCL0/(~{OE})/(CKE) (io), 138 P34/SCK0/SCK4/SDA0 (io), 139 P33/RXD1/SCL1 (io), 140 P32/RXD0/IRRXD/SDA1 (io), 141 P31/TXD1 (io), 142 P30/TXD0/IRTXD (io), 143 MD0 (in), 144 MD1 (in)
part B pins: 2 VSS (power), 4 VCC (power), 10 VSS (power), 18 VSS (power), 25 VSS (power), 41 VCC (power), 50 VSS (power), 70 VSS (power), 72 VCC (power), 91 PLLVCC (power), 93 PLLVSS (power), 95 VSS (power), 98 VCC (power), 99 VCC (power), 102 VSS (power), 111 AVCC (power), 129 AVSS (power)

## HD64F2378BVFQ
designator U?
Flash memory H8S/2300 Series, 2378 Group MCU, 512K ROM, 32K RAM, FP-144H Pkg; Published: 28-Aug-2009; DatasheetVersion: Rev.7.00, Mar-2009; PackageVersion: Sep-2005; PackageReference: PLQP0144KC-A; Publisher: Altium Limited; PackageDescription: 144-Pin Plastic Low Profile QFP, 20 x 20 x 1.45 mm Body, 0.5 mm Pitch; Code_JEITA: P-LQFP144-20x20-0.50; Code_IPC: SQFP50P2200X2200-144; ComponentLink1Description: Manufacturer Link; ComponentLink1URL: http://sg.renesas.com/fmwk.jsp?cnt=h8s_family_landing.jsp&fp=/products/mpumcu/h8s_family/; ComponentLink2Description: Datasheet; ComponentLink2URL: http://documentation.renesas.com/eng/products/mpumcu/rej09b0109_h8s2378.pdf; ComponentLink3Description: Packaging Specification; ComponentLink3URL: http://sg.renesas.com/media/products/common_info/package/pdf/ic/code/plqp0144kc_a.pdf
footprint PLQP0144KC-A_N (Shrink QFP, 144-Leads, Body 20x20mm, Pitch 0.5mm, IPC Medium Density)
footprint PLQP0144KC-A_L (Shrink QFP, 144-Leads, Body 20x20mm, Pitch 0.5mm, IPC High Density)
footprint PLQP0144KC-A_M (Shrink QFP, 144-Leads, Body 20x20mm, Pitch 0.5mm, IPC Low Density)
part A pins: 1 MD2 (in), 3 P80/(~{IRQ0})/~{EDREQ2} (io), 5 PC0/A0 (io), 6 PC1/A1 (io), 7 PC2/A2 (io), 8 PC3/A3 (io), 9 PC4/A4 (io), 11 PC5/A5 (io), 12 PC6/A6 (io), 13 PC7/A7 (io), 14 PB0/A8 (io), 15 PB1/A9 (io), 16 PB2/A10 (io), 17 PB3/A11 (io), 19 PB4/A12 (io), 20 PB5/A13 (io), 21 PB6/A14 (io), 22 PB7/A15 (io), 23 PA0/A16 (io), 24 PA1/A17 (io), 26 PA2/A18 (io), 27 PA3/A19 (io), 28 PA4/A20/~{IRQ4} (io), 29 PA5/A21/~{IRQ5} (io), 30 PA6/A22/~{IRQ6} (io), 31 PA7/A23/~{IRQ7} (io), 32 EMLE (in), 33 P81/(~{IRQ1})/TXD3/~{EDREQ3} (io), 34 P82/(~{IRQ2})/~{ETEND2} (io), 35 PH0/~{CS4}/~{RAS4}/~{WE} (io), 36 PH1/~{CS5}/~{RAS5}/SDRAMF (io), 37 PH2/~{CS6}/(~{IRQ6}) (io), 38 PH3/~{CS7}/(~{IRQ7})/~{OE}/CKE (io), 39 ~{WDTOVF} (out), 40 NMI (in), 42 P10/PO8/TIOCA0 (io), 43 P11/PO9/TIOCB0 (io), 44 P12/PO10/TIOCC0/TCLKA (io), 45 P13/PO11/TIOCD0/TCLKB (io), 46 P14/PO12/TIOCA1 (io), 47 P15/PO13/TIOCB1/TCLKC (io), 48 P16/PO14/TIOCA2/~{EDRAK2} (io), 49 P17/PO15/TIOCB2/TCLKD/~{EDRAK3} (io), 51 P20/PO0/TIOCA3/(~{IRQ8}) (io), 52 P21/PO1/TIOCB3/(~{IRQ9}) (io), 53 P22/PO2/TIOCC3/(~{IRQ10}) (io), 54 P23/PO3/TIOCD3/TXD4/(~{IRQ11}) (io), 55 P24/PO4/TIOCA4/RXD4/(~{IRQ12}) (io), 56 P25/PO5/TIOCB4/(~{IRQ13}) (io), 57 P26/PO6/TIOCA5/(~{IRQ14}) (io), 58 P27/PO7/TIOCB5/(~{IRQ15}) (io), 59 P83/(~{IRQ3})/RXD3/~{ETEND3} (io), 60 P84/(~{IRQ4})/EDACK2 (io), 61 P85/(~{IRQ5})/SCK3/EDACK3 (io), 62 DCTL (in), 63 PE0/D0 (io), 64 PE1/D1 (io), 65 PE2/D2 (io), 66 PE3/D3 (io), 67 PE4/D4 (io), 68 PE5/D5 (io), 69 PE6/D6 (io), 71 PE7/D7 (io), 73 PD0/D8 (io), 74 PD1/D9 (io), 75 PD2/D10 (io), 76 PD3/D11 (io), 77 PD4/D12 (io), 78 PD5/D13 (io), 79 PD6/D14 (io), 80 PD7/D15 (io), 81 P60/TMRI0/~{DREQ0}/~{IRQ8} (io), 82 P61/TMRI1/~{DREQ1}/~{IRQ9} (io), 83 P62/TMCI0/~{TEND0}/~{IRQ10} (io), 84 PF0/~{WAIT} (io), 85 PF1/~{IRQ14}/~{UCAS}/DQMU (io), 86 PF2/~{IRQ15}/~{LCAS}/DQML (io), 87 PF3/~{LWR} (io), 88 PF4/~{HWR} (io), 89 PF5/~{RD} (io), 90 PF6/~{AS} (io), 92 ~{RES} (in), 94 PF7/F (io), 96 XTAL (in), 97 EXTAL (in), 100 NC, 101 NC, 103 ~{STBY} (in), 104 P63/TMCI1/~{TEND1}/~{IRQ11} (io), 105 P64/TMO0/~{DACK0}/~{IRQ12} (io), 106 P65/TMO1/~{DACK1}/~{IRQ13} (io), 107 PG0/~{CS0} (io), 108 PG1/~{CS1} (io), 109 PG2/~{CS2}/~{RAS2}/~{RAS} (io), 110 PG3/~{CS3}/~{RAS3}/~{CAS} (io), 112 VREF (in), 113 P40/AN0 (io), 114 P41/AN1 (io), 115 P42/AN2 (io), 116 P43/AN3 (io), 117 P44/AN4 (io), 118 P45/AN5 (io), 119 P46/AN6/DA0 (io), 120 P47/AN7/DA1 (io), 121 P90/AN8 (io), 122 P91/AN9 (io), 123 P92/AN10 (io), 124 P93/AN11 (io), 125 P94/AN12/DA2 (io), 126 P95/AN13/DA3 (io), 127 P96/AN14/DA4 (io), 128 P97/AN15/DA5 (io), 130 PG4/~{BREQO} (io), 131 PG5/~{BACK} (io), 132 PG6/~{BREQ} (io), 133 P50/TXD2/~{IRQ0} (io), 134 P51/RXD2/~{IRQ1} (io), 135 P52/SCK2/~{IRQ2} (io), 136 P53/~{ADTRG}/~{IRQ3} (io), 137 P35/SCK1/SCL0/(~{OE})/(CKE) (io), 138 P34/SCK0/SCK4/SDA0 (io), 139 P33/RXD1/SCL1 (io), 140 P32/RXD0/IRRXD/SDA1 (io), 141 P31/TXD1 (io), 142 P30/TXD0/IRTXD (io), 143 MD0 (in), 144 MD1 (in)
part B pins: 2 VSS (power), 4 VCC (power), 10 VSS (power), 18 VSS (power), 25 VSS (power), 41 VCL, 50 VSS (power), 70 VSS (power), 72 VCC (power), 91 PLLVCC (power), 93 PLLVSS (power), 95 VSS (power), 98 VCC (power), 99 VCC (power), 102 VSS (power), 111 AVCC (power), 129 AVSS (power)

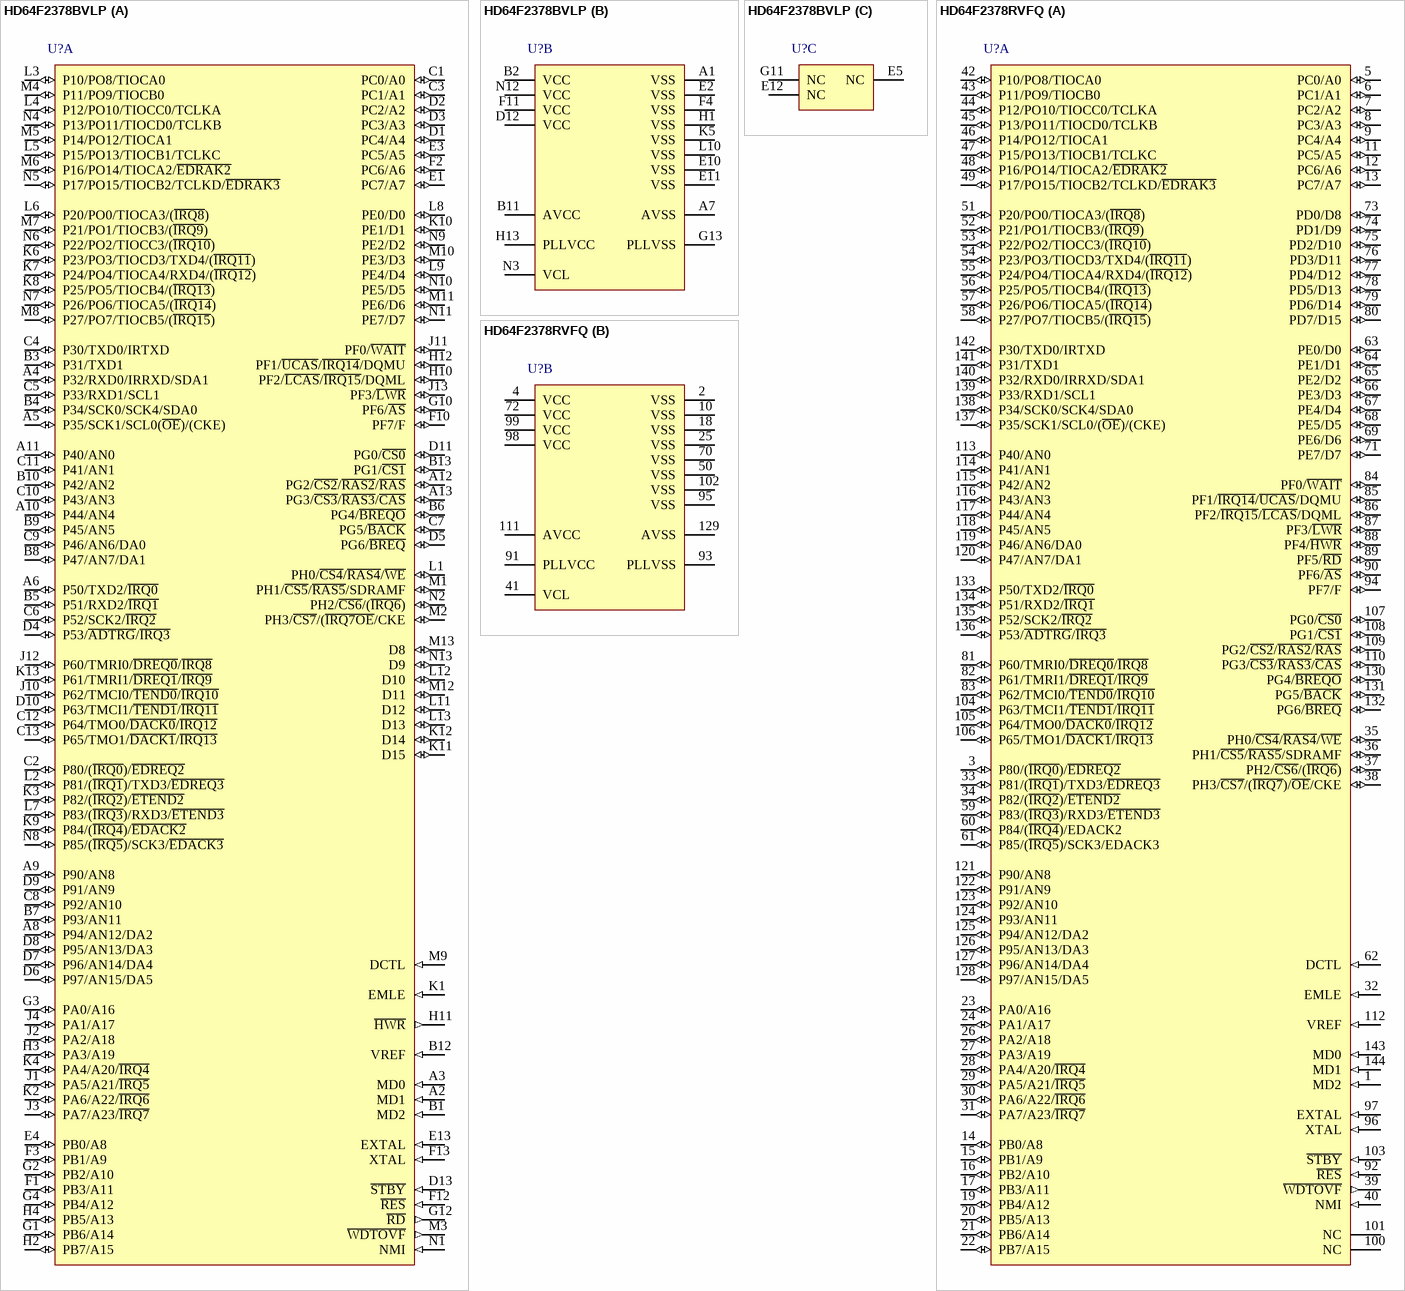
[diagram p68: symbols HD64F2378BVLP to HD64F2378RVFQ]

## HD64F2378BVLP
designator U?
Flash memory H8S/2300 Series, 2378 Group MCU, 512K ROM, 32K RAM, TLP-145V Pkg; Published: 28-Aug-2009; DatasheetVersion: Rev.7.00, Mar-2009; PackageVersion: Jun-2006; PackageReference: PTLG0145JB-A; Publisher: Altium Limited; PackageDescription: 145-Ball Plastic Thin Fine-Pitch BGA, 9 x 9 mm Body, 0.65 mm Pitch; Code_JEITA: P-TFLGA145-9x9-0.65; ComponentLink1Description: Manufacturer Link; ComponentLink1URL: http://sg.renesas.com/fmwk.jsp?cnt=h8s_family_landing.jsp&fp=/products/mpumcu/h8s_family/; ComponentLink2Description: Datasheet; ComponentLink2URL: http://documentation.renesas.com/eng/products/mpumcu/rej09b0109_h8s2378.pdf; ComponentLink3Description: Packaging Specification; ComponentLink3URL: http://sg.renesas.com/media/products/common_info/package/pdf/ic/code/ptlg0145jb_a.pdf
footprint PTLG0145JB-A (BGA, 145-Leads, Body 9x9mm, Pitch 0.65mm)
part A pins: A2 MD1 (in), A3 MD0 (in), A4 P32/RXD0/IRRXD/SDA1 (io), A5 P35/SCK1/SCL0(~{OE})/(CKE) (io), A6 P50/TXD2/~{IRQ0} (io), A8 P94/AN12/DA2 (io), A9 P90/AN8 (io), A10 P44/AN4 (io), A11 P40/AN0 (io), A12 PG2/~{CS2}/~{RAS2}/~{RAS} (io), A13 PG3/~{CS3}/~{RAS3}/~{CAS} (io), B1 MD2 (in), B3 P31/TXD1 (io), B4 P34/SCK0/SCK4/SDA0 (io), B5 P51/RXD2/~{IRQ1} (io), B6 PG4/~{BREQO} (io), B7 P93/AN11 (io), B8 P47/AN7/DA1 (io), B9 P45/AN5 (io), B10 P42/AN2 (io), B12 VREF (in), B13 PG1/~{CS1} (io), C1 PC0/A0 (io), C2 P80/(~{IRQ0})/~{EDREQ2} (io), C3 PC1/A1 (io), C4 P30/TXD0/IRTXD (io), C5 P33/RXD1/SCL1 (io), C6 P52/SCK2/~{IRQ2} (io), C7 PG5/~{BACK} (io), C8 P92/AN10 (io), C9 P46/AN6/DA0 (io), C10 P43/AN3 (io), C11 P41/AN1 (io), C12 P64/TMO0/~{DACK0}/~{IRQ12} (io), C13 P65/TMO1/~{DACK1}/~{IRQ13} (io), D1 PC4/A4 (io), D2 PC2/A2 (io), D3 PC3/A3 (io), D4 P53/~{ADTRG}/~{IRQ3} (io), D5 PG6/~{BREQ} (io), D6 P97/AN15/DA5 (io), D7 P96/AN14/DA4 (io), D8 P95/AN13/DA3 (io), D9 P91/AN9 (io), D10 P63/TMCI1/~{TEND1}/~{IRQ11} (io), D11 PG0/~{CS0} (io), D13 ~{STBY} (in), E1 PC7/A7 (io), E3 PC5/A5 (io), E4 PB0/A8 (io), E13 EXTAL (in), F1 PB3/A11 (io), F2 PC6/A6 (io), F3 PB1/A9 (io), F10 PF7/F (io), F12 ~{RES} (in), F13 XTAL (in), G1 PB6/A14 (io), G2 PB2/A10 (io), G3 PA0/A16 (io), G4 PB4/A12 (io), G10 PF6/~{AS} (io), G12 ~{RD} (out), H2 PB7/A15 (io), H3 PA3/A19 (io), H4 PB5/A13 (io), H10 PF2/~{LCAS}/~{IRQ15}/DQML (io), H11 ~{HWR} (out), H12 PF1/~{UCAS}/~{IRQ14}/DQMU (io), J1 PA5/A21/~{IRQ5} (io), J2 PA2/A18 (io), J3 PA7/A23/~{IRQ7} (io), J4 PA1/A17 (io), J10 P62/TMCI0/~{TEND0}/~{IRQ10} (io), J11 PF0/~{WAIT} (io), J12 P60/TMRI0/~{DREQ0}/~{IRQ8} (io), J13 PF3/~{LWR} (io), K1 EMLE (in), K2 PA6/A22/~{IRQ6} (io), K3 P82/(~{IRQ2})/~{ETEND2} (io), K4 PA4/A20/~{IRQ4} (io), K6 P23/PO3/TIOCD3/TXD4/(~{IRQ11}) (io), K7 P24/PO4/TIOCA4/RXD4/(~{IRQ12}) (io), K8 P25/PO5/TIOCB4/(~{IRQ13}) (io), K9 P84/(~{IRQ4})/~{EDACK2} (io), K10 PE1/D1 (io), K11 D15 (io), K12 D14 (io), K13 P61/TMRI1/~{DREQ1}/~{IRQ9} (io), L1 PH0/~{CS4}/~{RAS4}/~{WE} (io), L2 P81/(~{IRQ1})/TXD3/~{EDREQ3} (io), L3 P10/PO8/TIOCA0 (io), L4 P12/PO10/TIOCC0/TCLKA (io), L5 P15/PO13/TIOCB1/TCLKC (io), L6 P20/PO0/TIOCA3/(~{IRQ8}) (io), L7 P83/(~{IRQ3})/RXD3/~{ETEND3} (io), L8 PE0/D0 (io), L9 PE4/D4 (io), L11 D12 (io), L12 D10 (io), L13 D13 (io), M1 PH1/~{CS5}/~{RAS5}/SDRAMF (io), M2 PH3/~{CS7}/(~{IRQ7OE}/CKE (io), M3 ~{WDTOVF} (out), M4 P11/PO9/TIOCB0 (io), M5 P14/PO12/TIOCA1 (io), M6 P16/PO14/TIOCA2/~{EDRAK2} (io), M7 P21/PO1/TIOCB3/(~{IRQ9}) (io), M8 P27/PO7/TIOCB5/(~{IRQ15}) (io), M9 DCTL (in), M10 PE3/D3 (io), M11 PE6/D6 (io), M12 D11 (io), M13 D8 (io), N1 NMI (in), N2 PH2/~{CS6}/(~{IRQ6}) (io), N4 P13/PO11/TIOCD0/TCLKB (io), N5 P17/PO15/TIOCB2/TCLKD/~{EDRAK3} (io), N6 P22/PO2/TIOCC3/(~{IRQ10}) (io), N7 P26/PO6/TIOCA5/(~{IRQ14}) (io), N8 P85/(~{IRQ5})/SCK3/~{EDACK3} (io), N9 PE2/D2 (io), N10 PE5/D5 (io), N11 PE7/D7 (io), N13 D9 (io)
part B pins: A1 VSS (power), A7 AVSS (power), B2 VCC (power), B11 AVCC (power), D12 VCC (power), E2 VSS (power), E10 VSS (power), E11 VSS (power), F4 VSS (power), F11 VCC (power), G13 PLLVSS (power), H1 VSS (power), H13 PLLVCC (power), K5 VSS (power), L10 VSS (power), N3 VCL, N12 VCC (power)
part C pins: E5 NC, E12 NC, G11 NC

## HD64F2378RVFQ
designator U?
Flash memory H8S/2300 Series, 2378R Group MCU, 512K ROM, 32K RAM, FP-144H Pkg; Published: 28-Aug-2009; DatasheetVersion: Rev.7.00, Mar-2009; PackageVersion: Sep-2005; PackageReference: PLQP0144KC-A; Publisher: Altium Limited; PackageDescription: 144-Pin Plastic Low Profile QFP, 20 x 20 x 1.45 mm Body, 0.5 mm Pitch; Code_JEITA: P-LQFP144-20x20-0.50; Code_IPC: SQFP50P2200X2200-144; ComponentLink1Description: Manufacturer Link; ComponentLink1URL: http://sg.renesas.com/fmwk.jsp?cnt=h8s_family_landing.jsp&fp=/products/mpumcu/h8s_family/; ComponentLink2Description: Datasheet; ComponentLink2URL: http://documentation.renesas.com/eng/products/mpumcu/rej09b0109_h8s2378.pdf; ComponentLink3Description: Packaging Specification; ComponentLink3URL: http://sg.renesas.com/media/products/common_info/package/pdf/ic/code/plqp0144kc_a.pdf
footprint PLQP0144KC-A_N (Shrink QFP, 144-Leads, Body 20x20mm, Pitch 0.5mm, IPC Medium Density)
footprint PLQP0144KC-A_L (Shrink QFP, 144-Leads, Body 20x20mm, Pitch 0.5mm, IPC High Density)
footprint PLQP0144KC-A_M (Shrink QFP, 144-Leads, Body 20x20mm, Pitch 0.5mm, IPC Low Density)
part A pins: 1 MD2 (in), 3 P80/(~{IRQ0})/~{EDREQ2} (io), 5 PC0/A0 (io), 6 PC1/A1 (io), 7 PC2/A2 (io), 8 PC3/A3 (io), 9 PC4/A4 (io), 11 PC5/A5 (io), 12 PC6/A6 (io), 13 PC7/A7 (io), 14 PB0/A8 (io), 15 PB1/A9 (io), 16 PB2/A10 (io), 17 PB3/A11 (io), 19 PB4/A12 (io), 20 PB5/A13 (io), 21 PB6/A14 (io), 22 PB7/A15 (io), 23 PA0/A16 (io), 24 PA1/A17 (io), 26 PA2/A18 (io), 27 PA3/A19 (io), 28 PA4/A20/~{IRQ4} (io), 29 PA5/A21/~{IRQ5} (io), 30 PA6/A22/~{IRQ6} (io), 31 PA7/A23/~{IRQ7} (io), 32 EMLE (in), 33 P81/(~{IRQ1})/TXD3/~{EDREQ3} (io), 34 P82/(~{IRQ2})/~{ETEND2} (io), 35 PH0/~{CS4}/~{RAS4}/~{WE} (io), 36 PH1/~{CS5}/~{RAS5}/SDRAMF (io), 37 PH2/~{CS6}/(~{IRQ6}) (io), 38 PH3/~{CS7}/(~{IRQ7})/~{OE}/CKE (io), 39 ~{WDTOVF} (out), 40 NMI (in), 42 P10/PO8/TIOCA0 (io), 43 P11/PO9/TIOCB0 (io), 44 P12/PO10/TIOCC0/TCLKA (io), 45 P13/PO11/TIOCD0/TCLKB (io), 46 P14/PO12/TIOCA1 (io), 47 P15/PO13/TIOCB1/TCLKC (io), 48 P16/PO14/TIOCA2/~{EDRAK2} (io), 49 P17/PO15/TIOCB2/TCLKD/~{EDRAK3} (io), 51 P20/PO0/TIOCA3/(~{IRQ8}) (io), 52 P21/PO1/TIOCB3/(~{IRQ9}) (io), 53 P22/PO2/TIOCC3/(~{IRQ10}) (io), 54 P23/PO3/TIOCD3/TXD4/(~{IRQ11}) (io), 55 P24/PO4/TIOCA4/RXD4/(~{IRQ12}) (io), 56 P25/PO5/TIOCB4/(~{IRQ13}) (io), 57 P26/PO6/TIOCA5/(~{IRQ14}) (io), 58 P27/PO7/TIOCB5/(~{IRQ15}) (io), 59 P83/(~{IRQ3})/RXD3/~{ETEND3} (io), 60 P84/(~{IRQ4})/EDACK2 (io), 61 P85/(~{IRQ5})/SCK3/EDACK3 (io), 62 DCTL (in), 63 PE0/D0 (io), 64 PE1/D1 (io), 65 PE2/D2 (io), 66 PE3/D3 (io), 67 PE4/D4 (io), 68 PE5/D5 (io), 69 PE6/D6 (io), 71 PE7/D7 (io), 73 PD0/D8 (io), 74 PD1/D9 (io), 75 PD2/D10 (io), 76 PD3/D11 (io), 77 PD4/D12 (io), 78 PD5/D13 (io), 79 PD6/D14 (io), 80 PD7/D15 (io), 81 P60/TMRI0/~{DREQ0}/~{IRQ8} (io), 82 P61/TMRI1/~{DREQ1}/~{IRQ9} (io), 83 P62/TMCI0/~{TEND0}/~{IRQ10} (io), 84 PF0/~{WAIT} (io), 85 PF1/~{IRQ14}/~{UCAS}/DQMU (io), 86 PF2/~{IRQ15}/~{LCAS}/DQML (io), 87 PF3/~{LWR} (io), 88 PF4/~{HWR} (io), 89 PF5/~{RD} (io), 90 PF6/~{AS} (io), 92 ~{RES} (in), 94 PF7/F (io), 96 XTAL (in), 97 EXTAL (in), 100 NC, 101 NC, 103 ~{STBY} (in), 104 P63/TMCI1/~{TEND1}/~{IRQ11} (io), 105 P64/TMO0/~{DACK0}/~{IRQ12} (io), 106 P65/TMO1/~{DACK1}/~{IRQ13} (io), 107 PG0/~{CS0} (io), 108 PG1/~{CS1} (io), 109 PG2/~{CS2}/~{RAS2}/~{RAS} (io), 110 PG3/~{CS3}/~{RAS3}/~{CAS} (io), 112 VREF (in), 113 P40/AN0 (io), 114 P41/AN1 (io), 115 P42/AN2 (io), 116 P43/AN3 (io), 117 P44/AN4 (io), 118 P45/AN5 (io), 119 P46/AN6/DA0 (io), 120 P47/AN7/DA1 (io), 121 P90/AN8 (io), 122 P91/AN9 (io), 123 P92/AN10 (io), 124 P93/AN11 (io), 125 P94/AN12/DA2 (io), 126 P95/AN13/DA3 (io), 127 P96/AN14/DA4 (io), 128 P97/AN15/DA5 (io), 130 PG4/~{BREQO} (io), 131 PG5/~{BACK} (io), 132 PG6/~{BREQ} (io), 133 P50/TXD2/~{IRQ0} (io), 134 P51/RXD2/~{IRQ1} (io), 135 P52/SCK2/~{IRQ2} (io), 136 P53/~{ADTRG}/~{IRQ3} (io), 137 P35/SCK1/SCL0/(~{OE})/(CKE) (io), 138 P34/SCK0/SCK4/SDA0 (io), 139 P33/RXD1/SCL1 (io), 140 P32/RXD0/IRRXD/SDA1 (io), 141 P31/TXD1 (io), 142 P30/TXD0/IRTXD (io), 143 MD0 (in), 144 MD1 (in)
part B pins: 2 VSS (power), 4 VCC (power), 10 VSS (power), 18 VSS (power), 25 VSS (power), 41 VCL, 50 VSS (power), 70 VSS (power), 72 VCC (power), 91 PLLVCC (power), 93 PLLVSS (power), 95 VSS (power), 98 VCC (power), 99 VCC (power), 102 VSS (power), 111 AVCC (power), 129 AVSS (power)

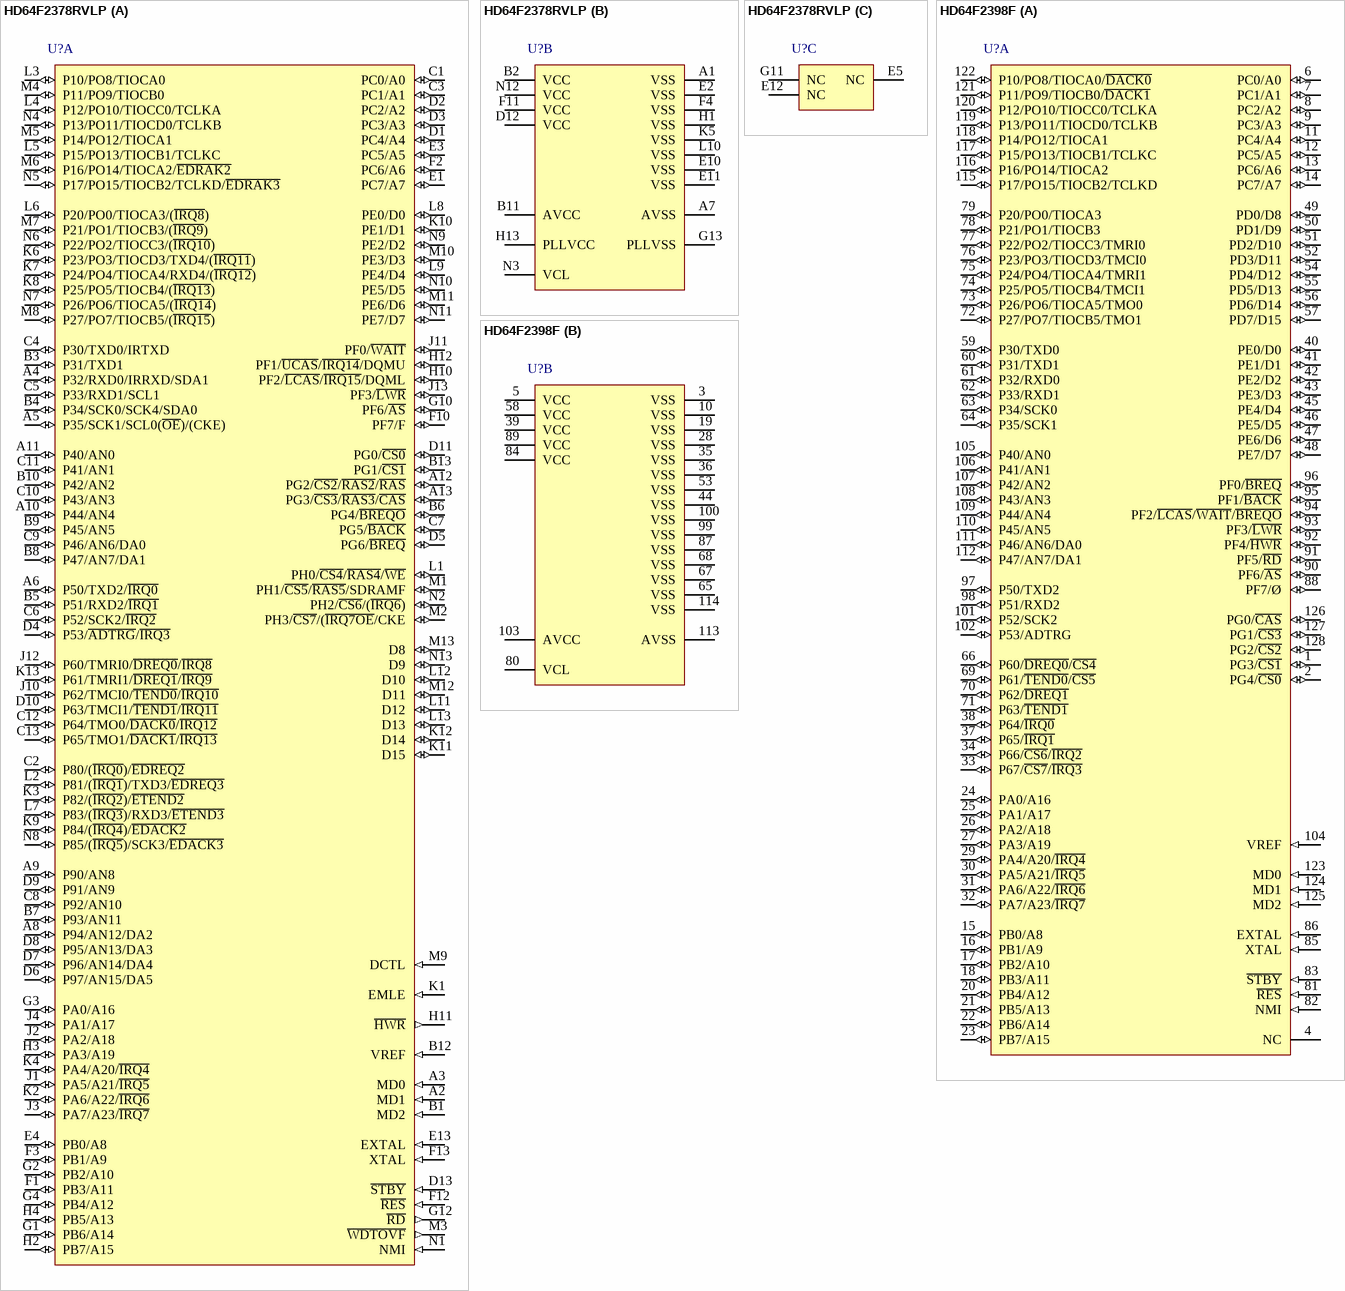
[diagram p69: symbols HD64F2378RVLP to HD64F2398F]

## HD64F2378RVLP
designator U?
Flash memory H8S/2300 Series, 2378R Group MCU, 512K ROM, 32K RAM, TLP-145V Pkg; Published: 28-Aug-2009; DatasheetVersion: Rev.7.00, Mar-2009; PackageVersion: Jun-2006; PackageReference: PTLG0145JB-A; Publisher: Altium Limited; PackageDescription: 145-Ball Plastic Thin Fine-Pitch BGA, 9 x 9 mm Body, 0.65 mm Pitch; Code_JEITA: P-TFLGA145-9x9-0.65; ComponentLink1Description: Manufacturer Link; ComponentLink1URL: http://sg.renesas.com/fmwk.jsp?cnt=h8s_family_landing.jsp&fp=/products/mpumcu/h8s_family/; ComponentLink2Description: Datasheet; ComponentLink2URL: http://documentation.renesas.com/eng/products/mpumcu/rej09b0109_h8s2378.pdf; ComponentLink3Description: Packaging Specification; ComponentLink3URL: http://sg.renesas.com/media/products/common_info/package/pdf/ic/code/ptlg0145jb_a.pdf
footprint PTLG0145JB-A (BGA, 145-Leads, Body 9x9mm, Pitch 0.65mm)
part A pins: A2 MD1 (in), A3 MD0 (in), A4 P32/RXD0/IRRXD/SDA1 (io), A5 P35/SCK1/SCL0(~{OE})/(CKE) (io), A6 P50/TXD2/~{IRQ0} (io), A8 P94/AN12/DA2 (io), A9 P90/AN8 (io), A10 P44/AN4 (io), A11 P40/AN0 (io), A12 PG2/~{CS2}/~{RAS2}/~{RAS} (io), A13 PG3/~{CS3}/~{RAS3}/~{CAS} (io), B1 MD2 (in), B3 P31/TXD1 (io), B4 P34/SCK0/SCK4/SDA0 (io), B5 P51/RXD2/~{IRQ1} (io), B6 PG4/~{BREQO} (io), B7 P93/AN11 (io), B8 P47/AN7/DA1 (io), B9 P45/AN5 (io), B10 P42/AN2 (io), B12 VREF (in), B13 PG1/~{CS1} (io), C1 PC0/A0 (io), C2 P80/(~{IRQ0})/~{EDREQ2} (io), C3 PC1/A1 (io), C4 P30/TXD0/IRTXD (io), C5 P33/RXD1/SCL1 (io), C6 P52/SCK2/~{IRQ2} (io), C7 PG5/~{BACK} (io), C8 P92/AN10 (io), C9 P46/AN6/DA0 (io), C10 P43/AN3 (io), C11 P41/AN1 (io), C12 P64/TMO0/~{DACK0}/~{IRQ12} (io), C13 P65/TMO1/~{DACK1}/~{IRQ13} (io), D1 PC4/A4 (io), D2 PC2/A2 (io), D3 PC3/A3 (io), D4 P53/~{ADTRG}/~{IRQ3} (io), D5 PG6/~{BREQ} (io), D6 P97/AN15/DA5 (io), D7 P96/AN14/DA4 (io), D8 P95/AN13/DA3 (io), D9 P91/AN9 (io), D10 P63/TMCI1/~{TEND1}/~{IRQ11} (io), D11 PG0/~{CS0} (io), D13 ~{STBY} (in), E1 PC7/A7 (io), E3 PC5/A5 (io), E4 PB0/A8 (io), E13 EXTAL (in), F1 PB3/A11 (io), F2 PC6/A6 (io), F3 PB1/A9 (io), F10 PF7/F (io), F12 ~{RES} (in), F13 XTAL (in), G1 PB6/A14 (io), G2 PB2/A10 (io), G3 PA0/A16 (io), G4 PB4/A12 (io), G10 PF6/~{AS} (io), G12 ~{RD} (out), H2 PB7/A15 (io), H3 PA3/A19 (io), H4 PB5/A13 (io), H10 PF2/~{LCAS}/~{IRQ15}/DQML (io), H11 ~{HWR} (out), H12 PF1/~{UCAS}/~{IRQ14}/DQMU (io), J1 PA5/A21/~{IRQ5} (io), J2 PA2/A18 (io), J3 PA7/A23/~{IRQ7} (io), J4 PA1/A17 (io), J10 P62/TMCI0/~{TEND0}/~{IRQ10} (io), J11 PF0/~{WAIT} (io), J12 P60/TMRI0/~{DREQ0}/~{IRQ8} (io), J13 PF3/~{LWR} (io), K1 EMLE (in), K2 PA6/A22/~{IRQ6} (io), K3 P82/(~{IRQ2})/~{ETEND2} (io), K4 PA4/A20/~{IRQ4} (io), K6 P23/PO3/TIOCD3/TXD4/(~{IRQ11}) (io), K7 P24/PO4/TIOCA4/RXD4/(~{IRQ12}) (io), K8 P25/PO5/TIOCB4/(~{IRQ13}) (io), K9 P84/(~{IRQ4})/~{EDACK2} (io), K10 PE1/D1 (io), K11 D15 (io), K12 D14 (io), K13 P61/TMRI1/~{DREQ1}/~{IRQ9} (io), L1 PH0/~{CS4}/~{RAS4}/~{WE} (io), L2 P81/(~{IRQ1})/TXD3/~{EDREQ3} (io), L3 P10/PO8/TIOCA0 (io), L4 P12/PO10/TIOCC0/TCLKA (io), L5 P15/PO13/TIOCB1/TCLKC (io), L6 P20/PO0/TIOCA3/(~{IRQ8}) (io), L7 P83/(~{IRQ3})/RXD3/~{ETEND3} (io), L8 PE0/D0 (io), L9 PE4/D4 (io), L11 D12 (io), L12 D10 (io), L13 D13 (io), M1 PH1/~{CS5}/~{RAS5}/SDRAMF (io), M2 PH3/~{CS7}/(~{IRQ7OE}/CKE (io), M3 ~{WDTOVF} (out), M4 P11/PO9/TIOCB0 (io), M5 P14/PO12/TIOCA1 (io), M6 P16/PO14/TIOCA2/~{EDRAK2} (io), M7 P21/PO1/TIOCB3/(~{IRQ9}) (io), M8 P27/PO7/TIOCB5/(~{IRQ15}) (io), M9 DCTL (in), M10 PE3/D3 (io), M11 PE6/D6 (io), M12 D11 (io), M13 D8 (io), N1 NMI (in), N2 PH2/~{CS6}/(~{IRQ6}) (io), N4 P13/PO11/TIOCD0/TCLKB (io), N5 P17/PO15/TIOCB2/TCLKD/~{EDRAK3} (io), N6 P22/PO2/TIOCC3/(~{IRQ10}) (io), N7 P26/PO6/TIOCA5/(~{IRQ14}) (io), N8 P85/(~{IRQ5})/SCK3/~{EDACK3} (io), N9 PE2/D2 (io), N10 PE5/D5 (io), N11 PE7/D7 (io), N13 D9 (io)
part B pins: A1 VSS (power), A7 AVSS (power), B2 VCC (power), B11 AVCC (power), D12 VCC (power), E2 VSS (power), E10 VSS (power), E11 VSS (power), F4 VSS (power), F11 VCC (power), G13 PLLVSS (power), H1 VSS (power), H13 PLLVCC (power), K5 VSS (power), L10 VSS (power), N3 VCL, N12 VCC (power)
part C pins: E5 NC, E12 NC, G11 NC